# Altium schematic symbol library 野火_F103霸道_原理图封装_V2_0.SCHLIB: 141 symbols (part 1 of 2)
Pins are listed as number, name and electrical type; pins without a type are passive.

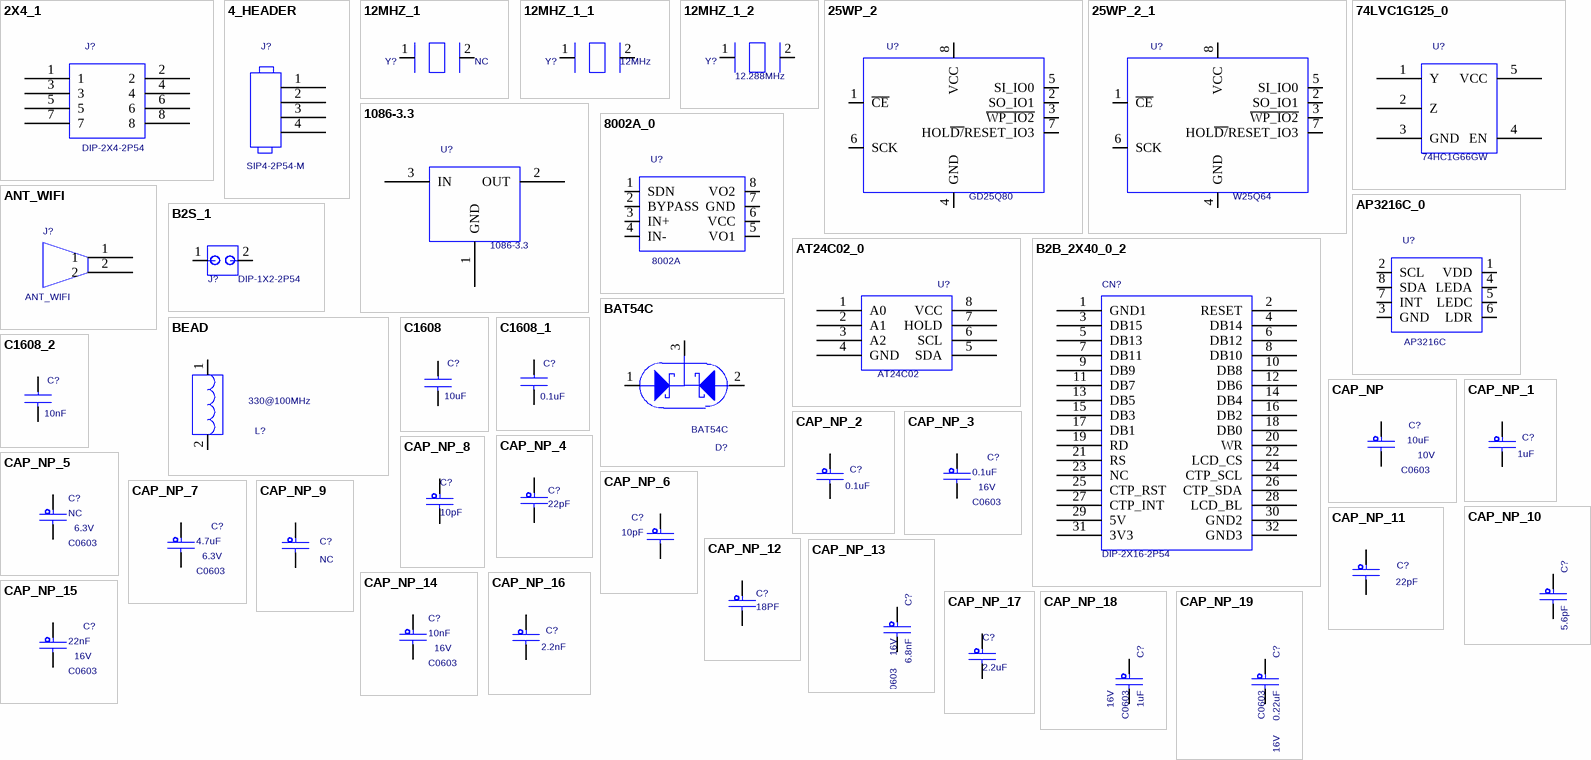
[diagram p0: symbols 2X4_1 to CAP_NP_19]

## 2X4_1
designator J?  value DIP-2X4-2P54  (hidden comment: 2X4_1)
Source_Path: D:\NXP_RT1050\RT1050_MB_PRO\SCH\IMXRT1052_MB_PRO_0321.DSN; PCB DECAL: DIP-2X4-2P54
footprint DIP-2X4-2P54
pins: 1, 2, 3, 4, 5, 6, 7, 8

## 4_HEADER
designator J?  value SIP4-2P54-M  (hidden comment: 4_HEADER)
PCB DECAL: SIP4-2P54; Source_Path: C:\MYPROGRAM\CADENCE\SPB_16.6\TOOLS\CAPTURE\LIBRARY\CONNECTOR.OLB
footprint SIP4-2P54
pins: 1, 2, 3, 4

## 12MHZ_1
designator Y?  value NC  (hidden comment: 12MHZ_1)
PCB DECAL: XTAL-DIP; Source_Path: H:\NXP_RT1050\SCH\IMXRT1052_MB.DSN
footprint XTAL-DIP
pins: 1, 2

## 12MHZ_1_1
designator Y?, comment value 12MHz  (hidden comment: 12MHZ_1)
PCB DECAL: XTAL_SMD; Source_Path: H:\NXP_RT1050\SCH\IMXRT1052_MB.DSN
footprint XTAL_SMD
pins: 1, 2

## 12MHZ_1_2
designator Y?, comment value 12.288MHz  (hidden comment: 12MHZ_1)
PCB DECAL: XTAL_SMD; Source_Path: H:\NXP_RT1050\SCH\IMXRT1052_MB.DSN
footprint XTAL_SMD
pins: 1, 2

## 25WP_2
designator U?  value GD25Q80  (hidden comment: 25WP_2)
IC MEM FLASH QPI 64Mb 1.65-1.95V SOIC8W; AGILE_PN: 334-77734; MFG_NAME01: ISSI; MFG_PN01: IS25WP064A-JBLE; Temp_Range: -40C to +105C; CAD_APPROVED: Yes; PCB DECAL: SOIC8-208; Source_Path: H:\NXP_RT1050\SCH\SCHLIB\IMXRT1052_1205.DSN; ROHS: Yes; HEIGHT: 2.16MM; CLASS: IC
footprint SOIC8-208
pins: 1 ~{CE}, 2 SO_IO1, 3 ~{WP_IO2}, 4 GND (power), 5 SI_IO0, 6 SCK, 7 HOL~{D/}RESET_IO3, 8 VCC (power)

## 25WP_2_1
designator U?, comment value W25Q64  (hidden comment: 25WP_2)
IC MEM FLASH QPI 64Mb 1.65-1.95V SOIC8W; PCB DECAL: SOIC8-208; AGILE_PN: 334-77734; MFG_NAME01: ISSI; MFG_PN01: IS25WP064A-JBLE; Temp_Range: -40C to +105C; CAD_APPROVED: Yes; Source_Path: H:\NXP_RT1050\SCH\SCHLIB\IMXRT1052_1205.DSN; ROHS: Yes; HEIGHT: 2.16MM; CLASS: IC
footprint SOIC8-208
pins: 1 ~{CE}, 2 SO_IO1, 3 ~{WP_IO2}, 4 GND (power), 5 SI_IO0, 6 SCK, 7 HOL~{D/}RESET_IO3, 8 VCC (power)

## 74LVC1G125_0
designator U?  value 74HC1G66GW  (hidden comment: 74LVC1G125_0)
PCB DECAL: SOT-353; Source_Path: F:\STM32\F407\F407 PRO\SCH\STM32F407_PRO.DSN
footprint SOT-353
pins: 1 Y, 2 Z, 3 GND, 4 EN, 5 VCC

## 1086-3.3
designator U?
PCB DECAL: TO252-2; Source_Path: H:\NXP_RT1050\SCH\SCHLIB\YHSCHLIB.OLB; Value: 1086-3.3
footprint TO252-2
pins: 1 GND, 2 OUT, 3 IN

## 8002A_0
designator U?  value 8002A  (hidden comment: 8002A_0)
PCB DECAL: SOP8; Source_Path: F:\STM32\F103\F103 PRO\野火_F103霸道_原理图_190226.DSN
footprint SOP8
pins: 1 SDN, 2 BYPASS, 3 IN+, 4 IN-, 5 VO1, 6 VCC, 7 GND, 8 VO2

## ANT_WIFI
designator J?
PCB DECAL: ANT_DIP2; Source_Path: F:\STM32\F407\F407 PRO\SCH\F407.OLB; Value: ANT_WIFI
footprint ANT_DIP2
pins: 1, 2

## AP3216C_0
designator U?  value AP3216C  (hidden comment: AP3216C_0)
Source_Path: D:\NXP_RT1050\RT1050_MB_PRO\SCH\IMXRT1052_MB_PRO_0414.DSN; PCB DECAL: AP3216C
footprint AP3216C
pins: 1 VDD, 2 SCL, 3 GND, 4 LEDA, 5 LEDC, 6 LDR, 7 INT, 8 SDA

## AT24C02_0
designator U?  value AT24C02  (hidden comment: AT24C02_0)
PCB DECAL: SOP8; Source_Path: F:\STM32\F407\F407 PRO\SCH\野火_F407霸天虎_原理图_V2.0.DSN; OriginalSymbolOrigin: (-20000,30000)
footprint SOP8
pins: 1 A0, 2 A1, 3 A2, 4 GND, 5 SDA, 6 SCL, 7 HOLD, 8 VCC

## B2B_2X40_0_2
designator CN?  value DIP-2X16-2P54  (hidden comment: B2B_2X40_0_2)
Source_Path: F:\STM32\F407\F407 PRO\SCH\STM32F407_PRO.DSN; PCB DECAL: DIP-2X16-2P54
footprint DIP-2X16-2P54
pins: 1 GND1, 2 RESET, 3 DB15, 4 DB14, 5 DB13, 6 DB12, 7 DB11, 8 DB10, 9 DB9, 10 DB8, 11 DB7, 12 DB6, 13 DB5, 14 DB4, 15 DB3, 16 DB2, 17 DB1, 18 DB0, 19 RD, 20 WR, 21 RS, 22 LCD_CS, 23 NC, 24 CTP_SCL, 25 CTP_RST, 26 CTP_SDA, 27 CTP_INT, 28 LCD_BL, 29 5V, 30 GND2, 31 3V3, 32 GND3

## B2S_1
designator J?  value DIP-1X2-2P54  (hidden comment: B2S_1)
PCB DECAL: HDR102; Source_Path: F:\STM32\F429\SCH\V4\STM32F429_F767_H743_MB_1129.DSN
footprint HDR102
pins: 1, 2

## BAT54C
designator D?
PCB DECAL: SOT23; Source_Path: C:\MYPROGRAM\CADENCE\SPB_16.6\TOOLS\CAPTURE\LIBRARY\SCH.OLB; Value: BAT54C
footprint SOT23
pins: 1 ANODE, 2 NC, 3 CATHODE

## BEAD
designator L?  value 330@100MHz  (hidden comment: BEAD)
IND FER BEAD 330OHM@100MHZ 1.7A 0603; PART_TYPE: FERRITE\BEAD; TOL: 25%; CAD_APPROVED: Yes; MFG_PN01: MPZ1608S331A; MFG_NAME01: TDK; AGILE_PN: 180-78156; PCB DECAL: L0603; Source_Path: Q:\ORCADCIS\SYMBOLS\FCL_INDUCTOR.OLB; CLASS: DISCRETE; HEIGHT: 0.95MM; ROHS: Yes; Tolerance: 25%
footprint L0603
pins: 1, 2

## C1608
designator C?  value 10uF  (hidden comment: C1608)
PCB DECAL: C0603; Source_Path: D:\SOPGODS_VIEW_AP\MOBILE_AP_APPLICATION\LIBRARY\ORCAD\DEVICE.OLB
footprint C0603
pins: 1, 2

## C1608_1
designator C?, comment value 0.1uF  (hidden comment: C1608)
PCB DECAL: C0603; Source_Path: D:\SOPGODS_VIEW_AP\MOBILE_AP_APPLICATION\LIBRARY\ORCAD\DEVICE.OLB
footprint C0603
pins: 1, 2

## C1608_2
designator C?, comment value 10nF  (hidden comment: C1608)
PCB DECAL: C0603; Source_Path: D:\SOPGODS_VIEW_AP\MOBILE_AP_APPLICATION\LIBRARY\ORCAD\DEVICE.OLB
footprint C0603
pins: 1, 2

## CAP_NP
designator C?  value 10uF  PCB DECAL: C0603  voltage_rating: 10V  (hidden comment: CAP_NP)
CAP CER 22UF 6.3V 20% X5R 0603; FPLIST: CC0603_OV,CC0603,0603_CC; CAD_APPROVED: Yes; MFG_PN01: CL10A226MQ8NRNE; MFG_NAME01: Samsung; AGILE_PN: 150-78467; Source_Path: Q:\ORCADCIS\SYMBOLS\FCL_CAPACITOR.OLB; CLASS: DISCRETE; VOLTAGE: 6.3V; HEIGHT: 1MM; ROHS: Yes; Tolerance: 20%
footprint C0603
pins: 1, 2

## CAP_NP_1
designator C?, comment value 1uF  (hidden comment: CAP_NP)
CAP CER 0.1UF 10V 10% X5R 0402; FPLIST: CC0402_25,CC0402_HD,0402_CC; CAD_APPROVED: Yes; MFG_PN01: C0402C104K8PAC; MFG_NAME01: KEMET; AGILE_PN: 150-75634; PCB DECAL: C0603; Source_Path: Q:\ORCADCIS\SYMBOLS\FCL_CAPACITOR.OLB; CLASS: DISCRETE; VOLTAGE: 10V; HEIGHT: 0.64MM; ROHS: Yes; Tolerance: 10%
footprint C0603
pins: 1, 2

## CAP_NP_2
designator C?, comment value 0.1uF  (hidden comment: CAP_NP)
CAP CER 0.1UF 10V 10% X5R 0402; FPLIST: CC0402_25,CC0402_HD,0402_CC; CAD_APPROVED: Yes; MFG_PN01: C0402C104K8PAC; MFG_NAME01: KEMET; AGILE_PN: 150-75634; PCB DECAL: C0603; Source_Path: Q:\ORCADCIS\SYMBOLS\FCL_CAPACITOR.OLB; CLASS: DISCRETE; VOLTAGE: 10V; HEIGHT: 0.64MM; ROHS: Yes; Tolerance: 10%
footprint C0603
pins: 1, 2

## CAP_NP_3
designator C?, comment value 0.1uF  PCB DECAL: C0603  voltage_rating: 16V  (hidden comment: CAP_NP)
CAP CER 22UF 6.3V 20% X5R 0603; AGILE_PN: 150-78467; MFG_NAME01: Samsung; MFG_PN01: CL10A226MQ8NRNE; CAD_APPROVED: Yes; FPLIST: CC0603_OV,CC0603,0603_CC; Source_Path: Q:\ORCADCIS\SYMBOLS\FCL_CAPACITOR.OLB; CLASS: DISCRETE; Tolerance: 20%; ROHS: Yes; HEIGHT: 1MM; VOLTAGE: 6.3V
footprint C0603
pins: 1, 2

## CAP_NP_4
designator C?, comment value 22pF  (hidden comment: CAP_NP)
CAP CER 4.7PF 50V 0.25PF C0G 0402; PCB DECAL: C0603; FPLIST: CC0402_25,CC0402_HD,0402_CC; CAD_APPROVED: Yes; MFG_PN01: GRM1555C1H4R7CA01D; MFG_NAME01: MURATA; AGILE_PN: 150-76335; Source_Path: Q:\ORCADCIS\SYMBOLS\FCL_CAPACITOR.OLB; CLASS: DISCRETE; VOLTAGE: 50V; HEIGHT: 0.55MM; ROHS: Yes; Tolerance: 0.25pF
footprint C0603
pins: 1, 2

## CAP_NP_5
designator C?, comment value NC  PCB DECAL: C0603  voltage_rating: 6.3V  (hidden comment: CAP_NP)
CAP CER 22UF 6.3V 20% X5R 0603; FPLIST: CC0603_OV,CC0603,0603_CC; CAD_APPROVED: Yes; MFG_PN01: CL10A226MQ8NRNE; MFG_NAME01: Samsung; AGILE_PN: 150-78467; Source_Path: Q:\ORCADCIS\SYMBOLS\FCL_CAPACITOR.OLB; CLASS: DISCRETE; VOLTAGE: 6.3V; HEIGHT: 1MM; ROHS: Yes; Tolerance: 20%
footprint C0603
pins: 1, 2

## CAP_NP_6
designator C?, comment value 10pF  (hidden comment: CAP_NP)
CAP CER 18PF 50V 1% C0G 0402; PCB DECAL: C0603; ROOM: ATLAS-AP; PRIORITY_PN: 021-00248; CAD_APPROVED: Yes; MFG_PN01: CC0402FRNPO9BN180; MFG_NAME01: YAGEO; AGILE_PN: 150-76630; FPLIST: CC0402_25,CC0402_HD,0402_CC; Source_Path: Q:\ORCADCIS\SYMBOLS\FCL_CAPACITOR.OLB; CLASS: DISCRETE; VOLTAGE: 50V; HEIGHT: 0.59MM; ROHS: Yes; Tolerance: 1%
footprint C0603
pins: 1, 2

## CAP_NP_7
designator C?, comment value 4.7uF  PCB DECAL: C0603  voltage_rating: 6.3V  (hidden comment: CAP_NP)
CAP CER 22UF 6.3V 20% X5R 0603; FPLIST: CC0603_OV,CC0603,0603_CC; CAD_APPROVED: Yes; MFG_PN01: CL10A226MQ8NRNE; MFG_NAME01: Samsung; AGILE_PN: 150-78467; Source_Path: Q:\ORCADCIS\SYMBOLS\FCL_CAPACITOR.OLB; CLASS: DISCRETE; VOLTAGE: 6.3V; HEIGHT: 1MM; ROHS: Yes; Tolerance: 20%
footprint C0603
pins: 1, 2

## CAP_NP_8
designator C?, comment value 10pF  (hidden comment: CAP_NP)
CAP CER 0.1UF 10V 10% X5R 0402; PCB DECAL: C0603; FPLIST: CC0402_25,CC0402_HD,0402_CC; CAD_APPROVED: Yes; MFG_PN01: C0402C104K8PAC; MFG_NAME01: KEMET; AGILE_PN: 150-75634; Source_Path: Q:\ORCADCIS\SYMBOLS\FCL_CAPACITOR.OLB; CLASS: DISCRETE; VOLTAGE: 10V; HEIGHT: 0.64MM; ROHS: Yes; Tolerance: 10%
footprint C0603
pins: 1, 2

## CAP_NP_9
designator C?, comment value NC  (hidden comment: CAP_NP)
CAP CER 0.1UF 10V 10% X5R 0402; PCB DECAL: C0603; AGILE_PN: 150-75634; MFG_NAME01: KEMET; MFG_PN01: C0402C104K8PAC; CAD_APPROVED: Yes; FPLIST: CC0402_25,CC0402_HD,0402_CC; Source_Path: Q:\ORCADCIS\SYMBOLS\FCL_CAPACITOR.OLB; CLASS: DISCRETE; Tolerance: 10%; ROHS: Yes; HEIGHT: 0.64MM; VOLTAGE: 10V
footprint C0603
pins: 1, 2

## CAP_NP_10
designator C?, comment value 5.6pF  (hidden comment: CAP_NP)
CAP CER 0.1UF 10V 10% X5R 0402; AGILE_PN: 150-75634; MFG_NAME01: KEMET; MFG_PN01: C0402C104K8PAC; CAD_APPROVED: Yes; FPLIST: CC0402_25,CC0402_HD,0402_CC; PCB DECAL: C0603; Source_Path: Q:\ORCADCIS\SYMBOLS\FCL_CAPACITOR.OLB; CLASS: DISCRETE; Tolerance: 10%; ROHS: Yes; HEIGHT: 0.64MM; VOLTAGE: 10V
footprint C0603
pins: 1, 2

## CAP_NP_11
designator C?, comment value 22pF  (hidden comment: CAP_NP)
CAP CER 0.1UF 10V 10% X5R 0402; AGILE_PN: 150-75634; MFG_NAME01: KEMET; MFG_PN01: C0402C104K8PAC; CAD_APPROVED: Yes; FPLIST: CC0402_25,CC0402_HD,0402_CC; PCB DECAL: C0603; Source_Path: Q:\ORCADCIS\SYMBOLS\FCL_CAPACITOR.OLB; CLASS: DISCRETE; Tolerance: 10%; ROHS: Yes; HEIGHT: 0.64MM; VOLTAGE: 10V
footprint C0603
pins: 1, 2

## CAP_NP_12
designator C?, comment value 18PF  (hidden comment: CAP_NP)
CAP CER 4.7PF 50V 0.25PF C0G 0402; AGILE_PN: 150-76335; MFG_NAME01: MURATA; MFG_PN01: GRM1555C1H4R7CA01D; CAD_APPROVED: Yes; FPLIST: CC0402_25,CC0402_HD,0402_CC; PCB DECAL: C0603; Source_Path: Q:\ORCADCIS\SYMBOLS\FCL_CAPACITOR.OLB; CLASS: DISCRETE; Tolerance: 0.25pF; ROHS: Yes; HEIGHT: 0.55MM; VOLTAGE: 50V
footprint C0603
pins: 1, 2

## CAP_NP_13
designator C?, comment value 6.8nF  PCB DECAL: C0603  voltage_rating: 16V  (hidden comment: CAP_NP)
CAP CER 22UF 6.3V 20% X5R 0603; FPLIST: CC0603_OV,CC0603,0603_CC; CAD_APPROVED: Yes; MFG_PN01: CL10A226MQ8NRNE; MFG_NAME01: Samsung; AGILE_PN: 150-78467; Source_Path: Q:\ORCADCIS\SYMBOLS\FCL_CAPACITOR.OLB; CLASS: DISCRETE; VOLTAGE: 6.3V; HEIGHT: 1MM; ROHS: Yes; Tolerance: 20%
footprint C0603
pins: 1, 2

## CAP_NP_14
designator C?, comment value 10nF  voltage_rating: 16V  PCB DECAL: C0603  (hidden comment: CAP_NP)
CAP CER 22UF 6.3V 20% X5R 0603; AGILE_PN: 150-78467; MFG_NAME01: Samsung; MFG_PN01: CL10A226MQ8NRNE; CAD_APPROVED: Yes; FPLIST: CC0603_OV,CC0603,0603_CC; Source_Path: Q:\ORCADCIS\SYMBOLS\FCL_CAPACITOR.OLB; CLASS: DISCRETE; Tolerance: 20%; ROHS: Yes; HEIGHT: 1MM; VOLTAGE: 6.3V
footprint C0603
pins: 1, 2

## CAP_NP_15
designator C?, comment value 22nF  voltage_rating: 16V  PCB DECAL: C0603  (hidden comment: CAP_NP)
CAP CER 22UF 6.3V 20% X5R 0603; FPLIST: CC0603_OV,CC0603,0603_CC; CAD_APPROVED: Yes; MFG_PN01: CL10A226MQ8NRNE; MFG_NAME01: Samsung; AGILE_PN: 150-78467; Source_Path: Q:\ORCADCIS\SYMBOLS\FCL_CAPACITOR.OLB; CLASS: DISCRETE; VOLTAGE: 6.3V; HEIGHT: 1MM; ROHS: Yes; Tolerance: 20%
footprint C0603
pins: 1, 2

## CAP_NP_16
designator C?, comment value 2.2nF  (hidden comment: CAP_NP)
CAP CER 0.1UF 10V 10% X5R 0402; PCB DECAL: C0603; FPLIST: CC0402_25,CC0402_HD,0402_CC; CAD_APPROVED: Yes; MFG_PN01: C0402C104K8PAC; MFG_NAME01: KEMET; AGILE_PN: 150-75634; Source_Path: Q:\ORCADCIS\SYMBOLS\FCL_CAPACITOR.OLB; CLASS: DISCRETE; VOLTAGE: 10V; HEIGHT: 0.64MM; ROHS: Yes; Tolerance: 10%
footprint C0603
pins: 1, 2

## CAP_NP_17
designator C?, comment value 2.2uF  (hidden comment: CAP_NP)
CAP CER 0.1UF 10V 10% X5R 0402; FPLIST: CC0402_25,CC0402_HD,0402_CC; CAD_APPROVED: Yes; MFG_PN01: C0402C104K8PAC; MFG_NAME01: KEMET; AGILE_PN: 150-75634; PCB DECAL: C0603; Source_Path: Q:\ORCADCIS\SYMBOLS\FCL_CAPACITOR.OLB; CLASS: DISCRETE; VOLTAGE: 10V; HEIGHT: 0.64MM; ROHS: Yes; Tolerance: 10%
footprint C0603
pins: 1, 2

## CAP_NP_18
designator C?, comment value 1uF  voltage_rating: 16V  PCB DECAL: C0603  (hidden comment: CAP_NP)
CAP CER 22UF 6.3V 20% X5R 0603; AGILE_PN: 150-78467; MFG_NAME01: Samsung; MFG_PN01: CL10A226MQ8NRNE; CAD_APPROVED: Yes; FPLIST: CC0603_OV,CC0603,0603_CC; Source_Path: Q:\ORCADCIS\SYMBOLS\FCL_CAPACITOR.OLB; CLASS: DISCRETE; Tolerance: 20%; ROHS: Yes; HEIGHT: 1MM; VOLTAGE: 6.3V
footprint C0603
pins: 1, 2

## CAP_NP_19
designator C?, comment value 0.22uF  voltage_rating: 16V  PCB DECAL: C0603  (hidden comment: CAP_NP)
CAP CER 22UF 6.3V 20% X5R 0603; AGILE_PN: 150-78467; MFG_NAME01: Samsung; MFG_PN01: CL10A226MQ8NRNE; CAD_APPROVED: Yes; FPLIST: CC0603_OV,CC0603,0603_CC; Source_Path: Q:\ORCADCIS\SYMBOLS\FCL_CAPACITOR.OLB; CLASS: DISCRETE; Tolerance: 20%; ROHS: Yes; HEIGHT: 1MM; VOLTAGE: 6.3V
footprint C0603
pins: 1, 2

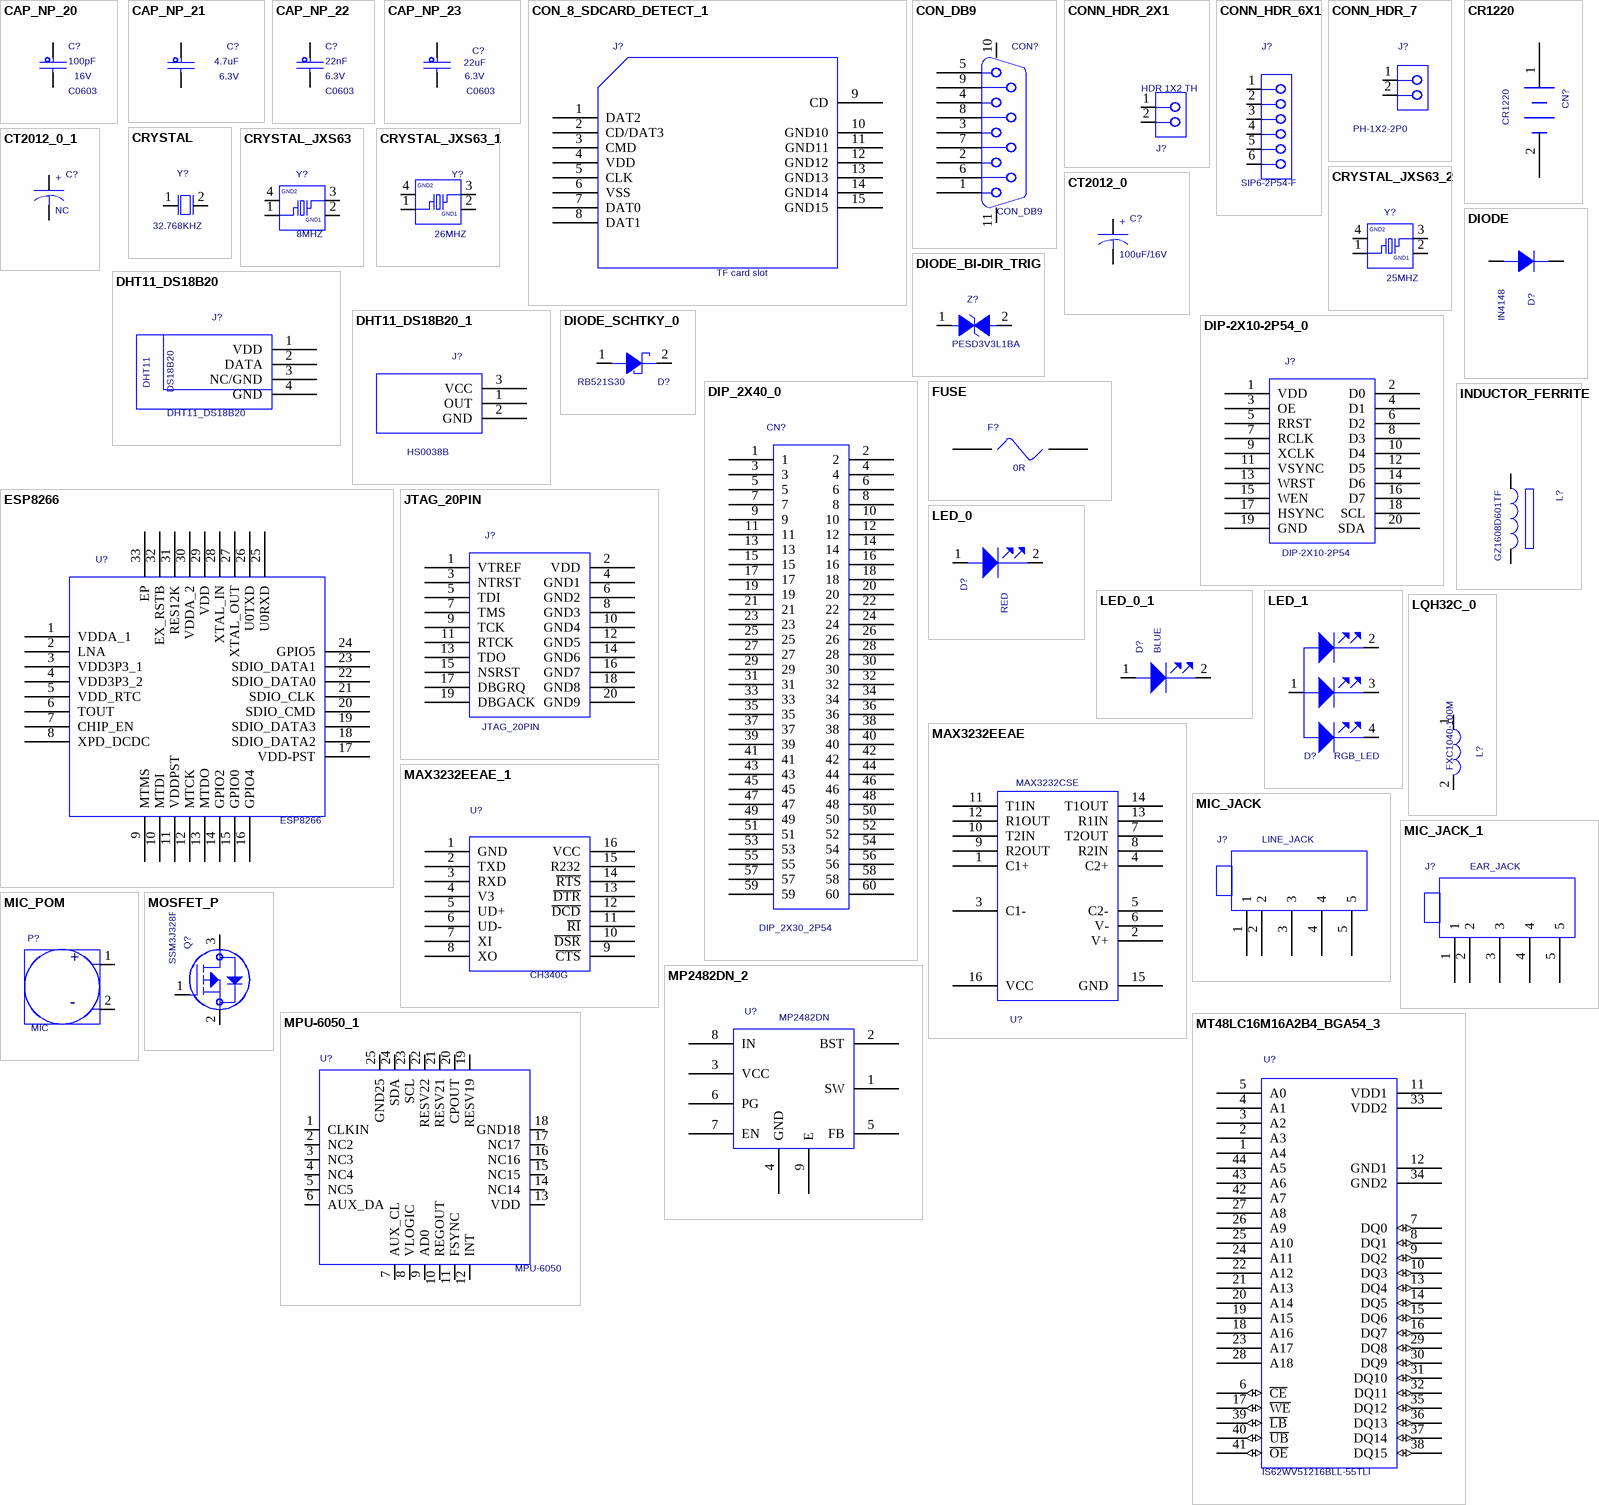
[diagram p1: symbols CAP_NP_20 to MT48LC16M16A2B4_BGA54_3]

## CAP_NP_20
designator C?, comment value 100pF  PCB DECAL: C0603  voltage_rating: 16V  (hidden comment: CAP_NP)
CAP CER 22UF 6.3V 20% X5R 0603; FPLIST: CC0603_OV,CC0603,0603_CC; CAD_APPROVED: Yes; MFG_PN01: CL10A226MQ8NRNE; MFG_NAME01: Samsung; AGILE_PN: 150-78467; Source_Path: Q:\ORCADCIS\SYMBOLS\FCL_CAPACITOR.OLB; CLASS: DISCRETE; VOLTAGE: 6.3V; HEIGHT: 1MM; ROHS: Yes; Tolerance: 20%
footprint C0603
pins: 1, 2

## CAP_NP_21
designator C?, comment value 4.7uF  voltage_rating: 6.3V  (hidden comment: CAP_NP)
CAP CER 4.7UF 6.3V 20% X5R 0402; PCB DECAL: C0603; FPLIST: CC0402_25,CC0402_HD,0402_CC; CAD_APPROVED: Yes; MFG_PN01: C1005X5R0J475M050BC; MFG_NAME01: TDK; AGILE_PN: 150-78463; Source_Path: Q:\ORCADCIS\SYMBOLS\FCL_CAPACITOR.OLB; CLASS: DISCRETE; HEIGHT: 0.65MM; ROHS: Yes; Tolerance: 20%; VOLTAGE: 6.3V
footprint C0603
pins: 1, 2

## CAP_NP_22
designator C?, comment value 22nF  PCB DECAL: C0603  VOLTAGE: 6.3V  (hidden comment: CAP_NP)
CAP CER 0.22UF 6.3V 20% X5R 0402; FPLIST: CC0402_25,CC0402_HD,0402_CC; CAD_APPROVED: Yes; MFG_PN01: C0402C224M9PAC; MFG_NAME01: KEMET; AGILE_PN: 150-76271; Source_Path: Q:\ORCADCIS\SYMBOLS\FCL_CAPACITOR.OLB; CLASS: DISCRETE; HEIGHT: 0.55MM; ROHS: Yes; Tolerance: 20%
footprint C0603
pins: 1, 2

## CAP_NP_23
designator C?, comment value 22uF  PCB DECAL: C0603  voltage_rating: 6.3V  (hidden comment: CAP_NP)
CAP CER 22UF 6.3V 20% X5R 0603; FPLIST: CC0603_OV,CC0603,0603_CC; CAD_APPROVED: Yes; MFG_PN01: CL10A226MQ8NRNE; MFG_NAME01: Samsung; AGILE_PN: 150-78467; Source_Path: Q:\ORCADCIS\SYMBOLS\FCL_CAPACITOR.OLB; CLASS: DISCRETE; VOLTAGE: 6.3V; HEIGHT: 1MM; ROHS: Yes; Tolerance: 20%
footprint C0603
pins: 1, 2

## CON_8_SDCARD_DETECT_1
designator J?  value TF card slot  (hidden comment: CON_8_SDCARD_DETECT_1)
CON 8 SKT SD/MMC PUSH-PUSH RA SMT 1.1MM SP 83H AU; PCB DECAL: TFCARD; CAD_APPROVED: Yes; MFG_PN01: 95060030-14RRF; MFG_NAME01: ANYTRONIC CORPORATION LIMITED; AGILE_PN: 211-80105; Source_Path: H:\NXP_RT1050\SCH\IMXRT1052_MB.DSN; CLASS: IO; HEIGHT: 2.1 MM; ROHS: Yes
footprint TFCARD
pins: 1 DAT2, 2 CD/DAT3, 3 CMD, 4 VDD (power), 5 CLK, 6 VSS (power), 7 DAT0, 8 DAT1, 9 CD, 10 GND10, 11 GND11, 12 GND12, 13 GND13, 14 GND14, 15 GND15

## CON_DB9
designator CON?
PCB DECAL: DB9-M; Source_Path: E:\WORK\LIB\ORCAD_SCH\MYLIB_10120926.OLB; Value: CON_DB9
footprint DB9-M
pins: 1, 2, 3, 4, 5, 6, 7, 8, 9, 10, 11

## CONN_HDR_2X1
designator J?  value HDR 1X2 TH  (hidden comment: CONN_HDR_2X1)
HDR 1X2 TH 100MIL SP 339H AU 98L; CAD_APPROVED: YES; MFG_PN01: TSW-102-07-G-S; MFG_NAME01: SAMTEC; AGILE_PN: 210-75439; PCB DECAL: CON_2PIN; Source_Path: Q:\ORCADCIS\SYMBOLS\FCL_CONNECTOR.OLB; CLASS: IO; HEIGHT: 8.71 MM; ROHS: Yes
footprint CON_2PIN
pins: 1, 2

## CONN_HDR_6X1
designator J?  value SIP6-2P54-F  (hidden comment: CONN_HDR_6X1)
CON 1X6 SKT TH 100MIL SP 344H AU 118L; PCB DECAL: SIP6-2P54; AGILE_PN: 210-81616; MFG_NAME01: ANYTRONIC CORPORATION LIMITED; MFG_PN01: 08001S3 0611-29RF; Temp_Range: -40°C to +105°C; ASSY_OPT: DNP; CAD_APPROVED: Yes; Source_Path: Q:\ORCADCIS\SYMBOLS\FCL_CONNECTOR.OLB; CLASS: IO; ROHS: Yes; HEIGHT: 8.75MM
footprint SIP6-2P54
pins: 1, 2, 3, 4, 5, 6

## CONN_HDR_7
designator J?  value PH-1X2-2P0  (hidden comment: CONN_HDR_7)
HDR 1X2 TH 100MIL SP 339H AU 98L; AGILE_PN: 210-75439; MFG_NAME01: SAMTEC; MFG_PN01: TSW-102-07-G-S; ASSY_OPT: DNP; CAD_APPROVED: YES; Source_Path: F:\STM32\LITEOS开发板\SCH\LITEOS_EVK_1013_1.DSN; CLASS: IO; ROHS: Yes; HEIGHT: 8.71 MM; PCB DECAL: PH-1X2-2P0
footprint PH-1X2-2P0
pins: 1, 2

## CR1220
designator CN?
Source_Path: H:\NXP_RT1050\SCH\SCHLIB\YHSCHLIB.OLB; PCB DECAL: CR1220; Value: CR1220
footprint CR1220
pins: 1 BAT, 2 GND

## CRYSTAL
designator Y?  value 32.768KHZ  (hidden comment: CRYSTAL)
XTAL 32.768KHZ 7PF 20PPM -- SMT; PCB DECAL: 3215; CAD_APPROVED: Yes; MFG_PN01: FC-135 32.7680KA-AG3; MFG_NAME01: EPSON ELECTRONICS; AGILE_PN: 230-78102; Source_Path: Q:\ORCADCIS\SYMBOLS\FCL_XTAL_OSC.OLB; CLASS: IC; HEIGHT: 0.9MM; ROHS: Yes
footprint 3215
pins: 1, 2

## CRYSTAL_JXS63
designator Y?  value 8MHZ  (hidden comment: CRYSTAL_JXS63)
XTAL 24MHZ -- 30PPM 3.2X2.5MM SMD; AGILE_PN: 230-77452; MFG_NAME01: TXC CORP; MFG_PN01: 7V24000002; CAD_APPROVED: Yes; PCB DECAL: 3225; Source_Path: Q:\ORCADCIS\SYMBOLS\FCL_XTAL_OSC.OLB; CLASS: IC; ROHS: Yes; HEIGHT: 0.9MM
footprint 3225
pins: 1, 2 GND1 (power), 3, 4 GND2 (power)

## CRYSTAL_JXS63_1
designator Y?, comment value 26MHZ  (hidden comment: CRYSTAL_JXS63)
XTAL 24MHZ -- 30PPM 3.2X2.5MM SMD; PCB DECAL: 3225; AGILE_PN: 230-77452; MFG_NAME01: TXC CORP; MFG_PN01: 7V24000002; CAD_APPROVED: Yes; Source_Path: Q:\ORCADCIS\SYMBOLS\FCL_XTAL_OSC.OLB; CLASS: IC; ROHS: Yes; HEIGHT: 0.9MM
footprint 3225
pins: 1, 2 GND1 (power), 3, 4 GND2 (power)

## CRYSTAL_JXS63_2
designator Y?, comment value 25MHZ  (hidden comment: CRYSTAL_JXS63)
XTAL 24MHZ -- 30PPM 3.2X2.5MM SMD; CAD_APPROVED: Yes; MFG_PN01: 7V24000002; MFG_NAME01: TXC CORP; AGILE_PN: 230-77452; PCB DECAL: 3225; Source_Path: Q:\ORCADCIS\SYMBOLS\FCL_XTAL_OSC.OLB; CLASS: IC; HEIGHT: 0.9MM; ROHS: Yes
footprint 3225
pins: 1, 2 GND1 (power), 3, 4 GND2 (power)

## CT2012_0
designator C?  value 100uF/16V  (hidden comment: CT2012_0)
PCB DECAL: EC6P3; Source_Path: D:\01_LSI_PROJECT\C100\00.SMDK俺惯\SCHEMATICS\C100\C100_CPU.OLB
footprint EC6P3
pins: 1, 2
text: +

## CT2012_0_1
designator C?, comment value NC  (hidden comment: CT2012_0)
PCB DECAL: CAP100; Source_Path: D:\01_LSI_PROJECT\C100\00.SMDK俺惯\SCHEMATICS\C100\C100_CPU.OLB
footprint CAP100
pins: 1, 2
text: +

## DHT11_DS18B20
designator J?
PCB DECAL: SIP4-2P54; Source_Path: H:\NXP_RT1050\SCH\SCHLIB\YHSCHLIB.OLB; Value: DHT11_DS18B20
footprint SIP4-2P54
pins: 1 VDD, 2 DATA, 3 NC/GND, 4 GND
text: DHT11; DS18B20

## DHT11_DS18B20_1
designator J?  value HS0038B  (hidden comment: DHT11_DS18B20_1)
PCB DECAL: SIP3-2P54; Source_Path: D:\NXP_RT1050\RT1050_MB_PRO\SCH\IMXRT1052_MB_PRO_0413.DSN
footprint SIP3-2P54
pins: 1 OUT, 2 GND, 3 VCC

## DIODE
designator D?  value IN4148  (hidden comment: DIODE)
PCB DECAL: D1206; Source_Path: C:\CADENCE\SPB_16.2\TOOLS\CAPTURE\LIBRARY\DISCRETE.OLB
footprint D1206
pins: 1 A, 2 K

## DIODE_BI-DIR_TRIG
designator Z?  value PESD3V3L1BA  (hidden comment: DIODE_BI-DIR_TRIG)
Assembly: NC; ROOM: B-VGA_IN; PCB DECAL: SOD323; Source_Path: D:\PCB_DATA\ORCAD_LIB\LRY2.OLB; Package: D0603
footprint SOD323
pins: 1, 2

## DIODE_SCHTKY_0
designator D?  value RB521S30  (hidden comment: DIODE_SCHTKY_0)
DIODE SCH RECT 200MA 30V AEC-Q101 SOD-523; PCB DECAL: SOD523; AGILE_PN: 480-79672; MFG_NAME01: NEXPERIA; MFG_PN01: RB521S30,115; CAD_APPROVED: Yes; Source_Path: H:\NXP_RT1050\SCH\IMXRT1052_CORE\CORE\IMXRT1052_1207.DSN; CLASS: IC; ROHS: Yes; HEIGHT: 0.65MM
footprint SOD523
pins: 1, 2

## DIP-2X10-2P54_0
designator J?  value DIP-2X10-2P54  (hidden comment: DIP-2X10-2P54_0)
Source_Path: F:\STM32\F103\F103 PRO\野火_F103霸道_原理图_V2.0.DSN; PCB DECAL: DIP-2X10-2P54
footprint DIP-2X10-2P54
pins: 1 VDD, 2 D0, 3 OE, 4 D1, 5 RRST, 6 D2, 7 RCLK, 8 D3, 9 XCLK, 10 D4, 11 VSYNC, 12 D5, 13 WRST, 14 D6, 15 WEN, 16 D7, 17 HSYNC, 18 SCL, 19 GND, 20 SDA

## DIP_2X40_0
designator CN?  value DIP_2X30_2P54  (hidden comment: DIP_2X40_0)
PCB DECAL: DIP-2X302P54; Source_Path: F:\STM32\F407\F407 PRO\SCH\STM32F407_PRO_20181222.DSN
footprint DIP-2X302P54
pins: 1, 2, 3, 4, 5, 6, 7, 8, 9, 10, 11, 12, 13, 14, 15, 16, 17, 18, 19, 20, 21, 22, 23, 24, 25, 26, 27, 28, 29, 30, 31, 32, 33, 34, 35, 36, 37, 38, 39, 40, 41, 42, 43, 44, 45, 46, 47, 48, 49, 50, 51, 52, 53, 54, 55, 56, 57, 58, 59, 60

## ESP8266
designator U?
PCB DECAL: QFN32-050-3R7X3R7; Source_Path: F:\STM32\F407\F407 PRO\SCH\F407.OLB; Value: ESP8266
footprint QFN32-050-3R7X3R7
pins: 1 VDDA_1, 2 LNA, 3 VDD3P3_1, 4 VDD3P3_2, 5 VDD_RTC, 6 TOUT, 7 CHIP_EN, 8 XPD_DCDC, 9 MTMS, 10 MTDI, 11 VDDPST, 12 MTCK, 13 MTDO, 14 GPIO2, 15 GPIO0, 16 GPIO4, 17 VDD-PST, 18 SDIO_DATA2, 19 SDIO_DATA3, 20 SDIO_CMD, 21 SDIO_CLK, 22 SDIO_DATA0, 23 SDIO_DATA1, 24 GPIO5, 25 U0RXD, 26 U0TXD, 27 XTAL_OUT, 28 XTAL_IN, 29 VDD, 30 VDDA_2, 31 RES12K, 32 EX_RSTB, 33 EP

## FUSE
designator F?  value 0R  (hidden comment: FUSE)
PCB DECAL: F0805; Source_Path: E:\WORK\LIB\ORCAD_SCH\MYLIB_10120926.OLB
footprint F0805
pins: 1, 2

## INDUCTOR_FERRITE
designator L?  value GZ1608D601TF  (hidden comment: INDUCTOR_FERRITE)
IND FER BEAD 120 OHM@100MHZ 0.5A 25% 0402; PART_TYPE: FERRITE\BEAD; AGILE_PN: 180-77771; MFG_NAME01: Murata; MFG_PN01: BLM15AG121SN1D; CAD_APPROVED: Yes; FPLIST: IND_0402,0402_CC; PCB DECAL: L0603; Source_Path: Q:\ORCADCIS\SYMBOLS\FCL_INDUCTOR.OLB; CLASS: DISCRETE; Tolerance: 25%; ROHS: Yes; HEIGHT: 0.55MM
footprint L0603
pins: 1, 2

## JTAG_20PIN
designator J?
Source_Path: C:\MYPROGRAM\CADENCE\SPB_16.6\TOOLS\CAPTURE\LIBRARY\SCH.OLB; PCB DECAL: JTAG_20PIN; Value: JTAG_20PIN
footprint JTAG_20PIN
pins: 1 VTREF, 2 VDD, 3 NTRST, 4 GND1, 5 TDI, 6 GND2, 7 TMS, 8 GND3, 9 TCK, 10 GND4, 11 RTCK, 12 GND5, 13 TDO, 14 GND6, 15 NSRST, 16 GND7, 17 DBGRQ, 18 GND8, 19 DBGACK, 20 GND9

## LED_0
designator D?  value RED  (hidden comment: LED_0)
LED GRN SGL 25MA 0603; PCB DECAL: LED0603; CAD_APPROVED: Yes; MFG_PN01: KPT-1608SGC; MFG_NAME01: KINGBRIGHT; AGILE_PN: 370-76549; Source_Path: H:\NXP_RT1050\SCH\IMXRT1052_CORE\CORE\IMXRT1052_1207.DSN; CLASS: IC; HEIGHT: 0.85MM; ROHS: Yes
footprint LED0603
pins: 1 ANODE, 2 CATHODE

## LED_0_1
designator D?, comment value BLUE  (hidden comment: LED_0)
LED GRN SGL 25MA 0603; AGILE_PN: 370-76549; MFG_NAME01: KINGBRIGHT; MFG_PN01: KPT-1608SGC; CAD_APPROVED: Yes; PCB DECAL: LED0603; Source_Path: H:\NXP_RT1050\SCH\IMXRT1052_CORE\CORE\IMXRT1052_1207.DSN; CLASS: IC; ROHS: Yes; HEIGHT: 0.85MM
footprint LED0603
pins: 1 ANODE, 2 CATHODE

## LED_1
designator D?  value RGB_LED  (hidden comment: LED_1)
LED GRN SGL 25MA 0603; CAD_APPROVED: Yes; MFG_PN01: KPT-1608SGC; MFG_NAME01: KINGBRIGHT; AGILE_PN: 370-76549; PCB DECAL: LED_RGB_5MM; Source_Path: F:\STM32\F429\PCB\V4\F429\F429_F767_H743MB\STM32F429_F767_H743_MB_1203.DSN; CLASS: IC; HEIGHT: 0.85MM; ROHS: Yes
footprint LED_RGB_5MM
pins: 1 ANODE, 2 R, 3 G, 4 B

## LQH32C_0
designator L?  value FXC1040-100M  (hidden comment: LQH32C_0)
PCB DECAL: L1040; Source_Path: D:\USER\ALLEGRO\2009\APR\SMDK_S5PC110_BASE\CAPTURE\S5PC110_SMDK_BASE_BD_SCHEMATIC_REV0.0.DSN
footprint L1040
pins: 1, 2

## MAX3232EEAE
designator U?  value MAX3232CSE  (hidden comment: MAX3232EEAE)
PCB DECAL: SOIC16; Source_Path: E:\WORKS\PCB_DESIGN\CADENCE\LIB\PACKAGE_LIB\PACKAGE.OLB
footprint SOIC16
pins: 1 C1+, 2 V+, 3 C1-, 4 C2+, 5 C2-, 6 V-, 7 T2OUT, 8 R2IN, 9 R2OUT, 10 T2IN, 11 T1IN, 12 R1OUT, 13 R1IN, 14 T1OUT, 15 GND (power), 16 VCC (power)

## MAX3232EEAE_1
designator U?  value CH340G  (hidden comment: MAX3232EEAE_1)
PCB DECAL: SOIC16; Source_Path: H:\NXP_RT1050\SCH\IMXRT1052_MB.DSN
footprint SOIC16
pins: 1 GND, 2 TXD, 3 RXD, 4 V3, 5 UD+, 6 UD-, 7 XI, 8 XO, 9 ~{CTS}, 10 ~{DSR}, 11 ~{RI}, 12 ~{DCD}, 13 ~{DTR}, 14 ~{RTS}, 15 R232, 16 VCC (power)

## MIC_JACK
designator J?  value LINE_JACK  (hidden comment: MIC_JACK)
PCB DECAL: EAR_JACK; Source_Path: H:\NXP_RT1050\SCH\SCHLIB\YHSCHLIB.OLB
footprint EAR_JACK
pins: 1, 2, 3, 4, 5

## MIC_JACK_1
designator J?, comment value EAR_JACK  (hidden comment: MIC_JACK)
Source_Path: H:\NXP_RT1050\SCH\SCHLIB\YHSCHLIB.OLB; PCB DECAL: EAR_JACK
footprint EAR_JACK
pins: 1, 2, 3, 4, 5

## MIC_POM
designator P?  value MIC  (hidden comment: MIC_POM)
AUDIO DEVICE MIC 0.5MA 2V 38-48+/-3dB 2.2KOHM 6MM TH; CAD_APPROVED: Yes; MFG_PN01: EM6022P; MFG_NAME01: Soberton Inc; AGILE_PN: 510-77987; PCB DECAL: MIC_6X2_2; Source_Path: Q:\ORCADCIS\SYMBOLS\FCL_MISC.OLB; CLASS: IC; HEIGHT: 2.4MM; ROHS: Yes
footprint MIC_6X2_2
pins: 1 OUT, 2 GND
text: +; -

## MOSFET_P
designator Q?  value SSM3J328R  (hidden comment: MOSFET_P)
TRAN PMOS PWR 12V 4.3A SOT23; AGILE_PN: 480-77718; MFG_NAME01: INTERNATIONAL RECTIFIER; MFG_PN01: IRLML6401TRPBF; CAD_APPROVED: Yes; Source_Path: Q:\ORCADCIS\SYMBOLS\FCL_SEMICONDUCTOR.OLB; CLASS: IC; PCB DECAL: SOT23; ROHS: Yes; HEIGHT: 1.12MM
footprint SOT23
pins: 1 GATE, 2 SOURCE, 3 DRAIN

## MP2482DN_2
designator U?  value MP2482DN  (hidden comment: MP2482DN_2)
PCB DECAL: SOIC8E; Source_Path: D:\NXP_RT1050\PCB\IMXRT1052-180207\SCH\RT1050_MB_PRO\IMXRT1052_MB_PRO_0320.DSN
footprint SOIC8E
pins: 1 SW, 2 BST, 3 VCC, 4 GND, 5 FB, 6 PG, 7 EN, 8 IN, 9 E (power)

## MPU-6050_1
designator U?  value MPU-6050  (hidden comment: MPU-6050_1)
PCB DECAL: QFN24; Source_Path: H:\NXP_RT1050\SCH\IMXRT1052_MB.DSN
footprint QFN24
pins: 1 CLKIN, 2 NC2, 3 NC3, 4 NC4, 5 NC5, 6 AUX_DA, 7 AUX_CL, 8 VLOGIC, 9 AD0, 10 REGOUT, 11 FSYNC, 12 INT, 13 VDD, 14 NC14, 15 NC15, 16 NC16, 17 NC17, 18 GND18, 19 RESV19, 20 CPOUT, 21 RESV21, 22 RESV22, 23 SCL, 24 SDA, 25 GND25

## MT48LC16M16A2B4_BGA54_3
designator U?  value IS62WV51216BLL-55TLI  (hidden comment: MT48LC16M16A2B4_BGA54_3)
IC MEM SDRAM 16MX16 6NS 3.3V VFBGA54; CAD_APPROVED: Yes; MFG_PN01: MT48LC16M16A2B4-6A IT:G; MFG_NAME01: MICRON; AGILE_PN: 334-77696; PCB DECAL: TSOP44-080-400; Source_Path: F:\STM32\F407\F407 PRO\SCH\STM32F407_PRO.DSN; HEIGHT: 1 MM; ROHS: Yes; CLASS: IC
footprint TSOP44-080-400
pins: 1 A4, 2 A3, 3 A2, 4 A1, 5 A0, 6 ~{CE} (io), 7 DQ0 (io), 8 DQ1 (io), 9 DQ2 (io), 10 DQ3 (io), 11 VDD1 (power), 12 GND1 (power), 13 DQ4 (io), 14 DQ5 (io), 15 DQ6 (io), 16 DQ7 (io), 17 ~{WE} (io), 18 A16, 19 A15, 20 A14, 21 A13, 22 A12, 23 A17, 24 A11, 25 A10, 26 A9, 27 A8, 28 A18, 29 DQ8 (io), 30 DQ9 (io), 31 DQ10 (io), 32 DQ11 (io), 33 VDD2 (power), 34 GND2 (power), 35 DQ12 (io), 36 DQ13 (io), 37 DQ14 (io), 38 DQ15 (io), 39 ~{LB} (io), 40 ~{UB} (io), 41 ~{OE} (io), 42 A7, 43 A6, 44 A5

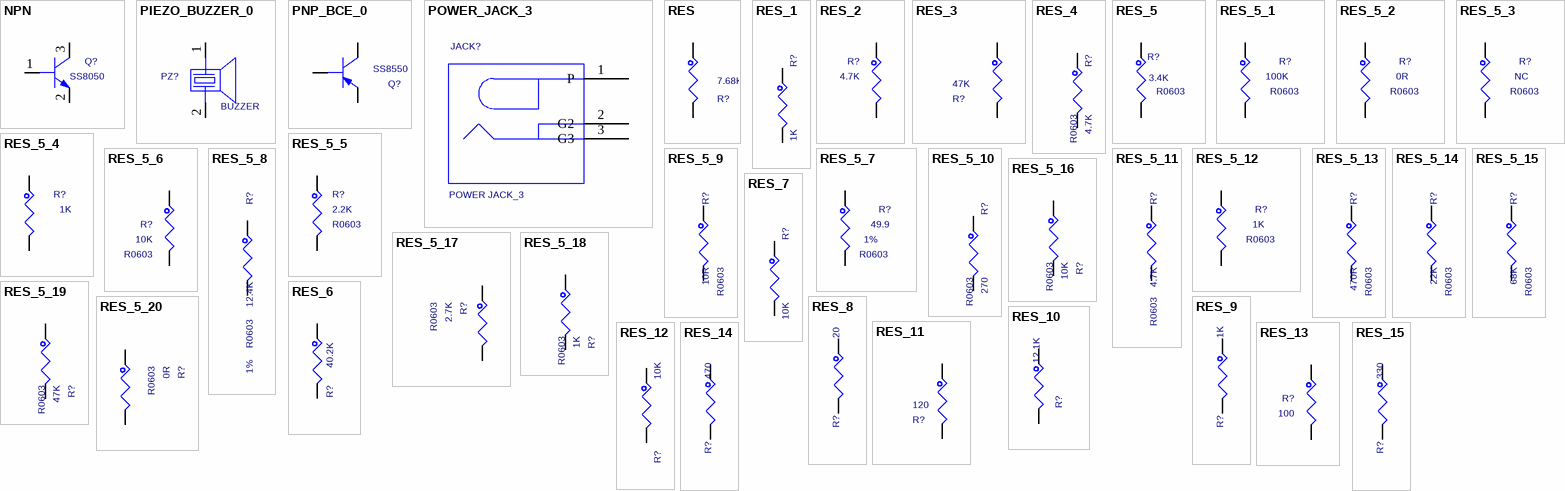
[diagram p2: symbols NPN to RES_15]

## NPN
designator Q?  value SS8050  (hidden comment: NPN)
TRAN NPN GEN 0.5A 45V AEC-Q101 SOT23; AGILE_PN: 480-78842; MFG_NAME01: NEXPERIA; MFG_PN01: BC817,215; CAD_APPROVED: Yes; Source_Path: Q:\ORCADCIS\SYMBOLS\FCL_SEMICONDUCTOR.OLB; CLASS: IC; ROHS: Yes; HEIGHT: 1.1 MM; PCB DECAL: SOT23
footprint SOT23
pins: 1 BASE, 2 EMITTER, 3 COLLECTOR

## PIEZO_BUZZER_0
designator PZ?  value BUZZER  (hidden comment: PIEZO_BUZZER_0)
Source_Path: D:\NXP_RT1050\RT1050_MB_PRO\SCH\IMXRT1052_MB_PRO_0417_4.DSN; PCB DECAL: BUZZER
footprint BUZZER
pins: 1 +, 2 -

## PNP_BCE_0
designator Q?  value SS8550  (hidden comment: PNP_BCE_0)
PCB DECAL: SOT23; Source_Path: F:\STM32\F407\F407 PRO\SCH\STM32F407_PRO.DSN
footprint SOT23
pins: 1 B, 2 E, 3 C

## POWER_JACK_3
designator JACK?  value POWER JACK_3  (hidden comment: POWER_JACK_3)
PCB DECAL: JACK-2_5MM_B; Source_Path: E:\WORK\SCH5\X\SCH\DEVELOP_BOARD_V1-5-21.DSN
footprint JACK-2_5MM_B
pins: 1 P, 2 G2, 3 G3

## RES
designator R?  value 7.68K  (hidden comment: RES)
RES MF 1.0M 1/10W 5% 0402; FPLIST: RC0402_25,RC0402_HD,0402_CC; CAD_APPROVED: Yes; MFG_PN01: ERJ-2GEJ105X; MFG_NAME01: PANASONIC; AGILE_PN: 470-79978; PCB DECAL: R0603; Source_Path: Q:\ORCADCIS\SYMBOLS\FCL_RESISTOR.OLB; CLASS: DISCRETE; ROHS: Yes; Tolerance: 5%; HEIGHT: 0.4MM
footprint R0603
pins: 1, 2

## RES_1
designator R?, comment value 1K  (hidden comment: RES)
RES MF ZERO OHM 1/16W 5% 0402; PCB DECAL: R0603; FPLIST: RC0402_25,RC0402_HD,RC0402_X2,0402_CC; CAD_APPROVED: Yes; MFG_PN01: MCR01MZPJ000; MFG_NAME01: ROHM; AGILE_PN: 470-75394; Source_Path: Q:\ORCADCIS\SYMBOLS\FCL_RESISTOR.OLB; CLASS: DISCRETE; ROHS: Yes; Tolerance: 5%; HEIGHT: 0.45 MM
footprint R0603
pins: 1, 2

## RES_2
designator R?, comment value 4.7K  (hidden comment: RES)
RES MF 1.0M 1/10W 5% 0402; FPLIST: RC0402_25,RC0402_HD,0402_CC; CAD_APPROVED: Yes; MFG_PN01: ERJ-2GEJ105X; MFG_NAME01: PANASONIC; AGILE_PN: 470-79978; PCB DECAL: R0603; Source_Path: Q:\ORCADCIS\SYMBOLS\FCL_RESISTOR.OLB; CLASS: DISCRETE; ROHS: Yes; Tolerance: 5%; HEIGHT: 0.4MM
footprint R0603
pins: 1, 2

## RES_3
designator R?, comment value 47K  (hidden comment: RES)
RES MF 1.0M 1/10W 5% 0402; PCB DECAL: R0603; AGILE_PN: 470-79978; MFG_NAME01: PANASONIC; MFG_PN01: ERJ-2GEJ105X; CAD_APPROVED: Yes; FPLIST: RC0402_25,RC0402_HD,0402_CC; Source_Path: Q:\ORCADCIS\SYMBOLS\FCL_RESISTOR.OLB; CLASS: DISCRETE; HEIGHT: 0.4MM; Tolerance: 5%; ROHS: Yes
footprint R0603
pins: 1, 2

## RES_4
designator R?  value 4.7K  PCB DECAL: R0603  (hidden comment: RES_4)
RES MF 4.7K 1/16W 5% 0402; AGILE_PN: 470-75626; MFG_NAME01: KOA SPEER; MFG_PN01: RK73B1ETTP472J; CAD_APPROVED: Yes; FPLIST: RC0402_25,RC0402_HD,0402_CC; CLASS: DISCRETE; Source_Path: F:\NXP\RT1020\SCH\IMXRT1021_0928.DSN; Tolerance: 5%; ROHS: Yes; HEIGHT: 0.41mm
footprint R0603
pins: 1, 2

## RES_5
designator R?  value 3.4K  PCB DECAL: R0603  (hidden comment: RES_5)
RES MF 4.7K 1/16W 5% 0402; AGILE_PN: 470-75626; MFG_NAME01: KOA SPEER; MFG_PN01: RK73B1ETTP472J; CAD_APPROVED: Yes; FPLIST: RC0402_25,RC0402_HD,0402_CC; Source_Path: F:\NXP\RT1020\SCH\IMXRT1021_0928_1.DSN; CLASS: DISCRETE; Tolerance: 5%; ROHS: Yes; HEIGHT: 0.41mm
footprint R0603
pins: 1, 2

## RES_5_1
designator R?, comment value 100K  PCB DECAL: R0603  (hidden comment: RES_5)
RES MF ZERO OHM 1/16W 5% 0402; AGILE_PN: 470-75394; MFG_NAME01: ROHM; MFG_PN01: MCR01MZPJ000; CAD_APPROVED: Yes; FPLIST: RC0402_25,RC0402_HD,RC0402_X2,0402_CC; Source_Path: F:\NXP\RT1020\SCH\IMXRT1021_0928_1.DSN; CLASS: DISCRETE; HEIGHT: 0.45 MM; Tolerance: 5%; ROHS: Yes
footprint R0603
pins: 1, 2

## RES_5_2
designator R?, comment value 0R  PCB DECAL: R0603  (hidden comment: RES_5)
RES MF ZERO OHM 1/16W 5% 0402; AGILE_PN: 470-75394; MFG_NAME01: ROHM; MFG_PN01: MCR01MZPJ000; CAD_APPROVED: Yes; FPLIST: RC0402_25,RC0402_HD,RC0402_X2,0402_CC; Source_Path: F:\NXP\RT1020\SCH\IMXRT1021_0928_1.DSN; CLASS: DISCRETE; HEIGHT: 0.45 MM; Tolerance: 5%; ROHS: Yes
footprint R0603
pins: 1, 2

## RES_5_3
designator R?, comment value NC  PCB DECAL: R0603  (hidden comment: RES_5)
RES MF ZERO OHM 1/16W 5% 0402; AGILE_PN: 470-75394; MFG_NAME01: ROHM; MFG_PN01: MCR01MZPJ000; CAD_APPROVED: Yes; FPLIST: RC0402_25,RC0402_HD,RC0402_X2,0402_CC; Source_Path: F:\NXP\RT1020\SCH\IMXRT1021_0928_1.DSN; CLASS: DISCRETE; HEIGHT: 0.45 MM; Tolerance: 5%; ROHS: Yes
footprint R0603
pins: 1, 2

## RES_5_4
designator R?, comment value 1K  (hidden comment: RES_5)
RES MF 220 OHM 1/10W 5% 0603; FPLIST: RC0603_OV,RC0603,0603_CC; CAD_APPROVED: Yes; MFG_PN01: RK73B1JTTD221J; MFG_NAME01: KOA SPEER; AGILE_PN: 470-30297; PCB DECAL: R0603; Source_Path: F:\NXP\RT1020\SCH\IMXRT1021_0928_1.DSN; CLASS: DISCRETE; HEIGHT: 0.6MM; ROHS: Yes; Tolerance: 5%
footprint R0603
pins: 1, 2

## RES_5_5
designator R?, comment value 2.2K  PCB DECAL: R0603  (hidden comment: RES_5)
RES MF 10K 1/16W 5% 0402; FPLIST: RC0402_25,RC0402_HD,0402_CC; CAD_APPROVED: Yes; MFG_PN01: CRCW040210K0JNED; MFG_NAME01: VISHAY INTERTECHNOLOGY; AGILE_PN: 470-75557; Source_Path: F:\NXP\RT1020\SCH\IMXRT1021_0928_1.DSN; CLASS: DISCRETE; ROHS: Yes; Tolerance: 5%; TOL: 5%; HEIGHT: 0.4 MM
footprint R0603
pins: 1, 2

## RES_5_6
designator R?, comment value 10K  PCB DECAL: R0603  (hidden comment: RES_5)
RES MF ZERO OHM 1/16W 5% 0402; AGILE_PN: 470-75394; MFG_NAME01: ROHM; MFG_PN01: MCR01MZPJ000; CAD_APPROVED: Yes; FPLIST: RC0402_25,RC0402_HD,RC0402_X2,0402_CC; Source_Path: F:\NXP\RT1020\SCH\IMXRT1021_0928_1.DSN; CLASS: DISCRETE; HEIGHT: 0.45 MM; Tolerance: 5%; ROHS: Yes
footprint R0603
pins: 1, 2

## RES_5_7
designator R?, comment value 49.9  Tolerance: 1%  PCB DECAL: R0603  (hidden comment: RES_5)
RES MF 180K 1/10W 1% AEC-Q200 0402; Temp_Range: -55C to +155C; FPLIST: RC0402_25,RC0402_HD,0402_CC; CAD_APPROVED: Yes; MFG_PN01: RK73H1ETTP1803F; MFG_NAME01: KOA SPEER; AGILE_PN: 470-31088; Source_Path: F:\NXP\RT1020\SCH\IMXRT1021_0928_1.DSN; CLASS: DISCRETE; HEIGHT: 0.40 MM; ROHS: Yes
footprint R0603
pins: 1, 2

## RES_5_8
designator R?, comment value 12.4K  Tolerance: 1%  PCB DECAL: R0603  (hidden comment: RES_5)
RES MF 200K 1/10W 1% AEC-Q200 0402; AGILE_PN: 470-31093; MFG_NAME01: KOA SPEER; MFG_PN01: RK73H1ETTP2003F; CAD_APPROVED: Yes; FPLIST: RC0402_25,RC0402_HD,0402_CC; Temp_Range: -55C to +155C; Source_Path: F:\NXP\RT1020\SCH\IMXRT1021_0928_1.DSN; CLASS: DISCRETE; HEIGHT: 0.40 MM; ROHS: Yes
footprint R0603
pins: 1, 2

## RES_5_9
designator R?, comment value 10R  PCB DECAL: R0603  (hidden comment: RES_5)
RES MF ZERO OHM 1/16W 5% 0402; AGILE_PN: 470-75394; MFG_NAME01: ROHM; MFG_PN01: MCR01MZPJ000; CAD_APPROVED: Yes; FPLIST: RC0402_25,RC0402_HD,RC0402_X2,0402_CC; Source_Path: F:\NXP\RT1020\SCH\IMXRT1021_0928_1.DSN; CLASS: DISCRETE; HEIGHT: 0.45 MM; Tolerance: 5%; ROHS: Yes
footprint R0603
pins: 1, 2

## RES_5_10
designator R?, comment value 270  PCB DECAL: R0603  (hidden comment: RES_5)
RES MF ZERO OHM 1/16W 5% 0402; AGILE_PN: 470-75394; MFG_NAME01: ROHM; MFG_PN01: MCR01MZPJ000; CAD_APPROVED: Yes; FPLIST: RC0402_25,RC0402_HD,RC0402_X2,0402_CC; Source_Path: F:\NXP\RT1020\SCH\IMXRT1021_0928_1.DSN; CLASS: DISCRETE; HEIGHT: 0.45 MM; Tolerance: 5%; ROHS: Yes
footprint R0603
pins: 1, 2

## RES_5_11
designator R?, comment value 4.7K  PCB DECAL: R0603  (hidden comment: RES_5)
RES MF ZERO OHM 1/16W 5% 0402; FPLIST: RC0402_25,RC0402_HD,RC0402_X2,0402_CC; CAD_APPROVED: Yes; MFG_PN01: MCR01MZPJ000; MFG_NAME01: ROHM; AGILE_PN: 470-75394; Source_Path: F:\NXP\RT1020\SCH\IMXRT1021_0928_1.DSN; CLASS: DISCRETE; ROHS: Yes; Tolerance: 5%; HEIGHT: 0.45 MM
footprint R0603
pins: 1, 2

## RES_5_12
designator R?, comment value 1K  PCB DECAL: R0603  (hidden comment: RES_5)
RES MF ZERO OHM 1/16W 5% 0402; FPLIST: RC0402_25,RC0402_HD,RC0402_X2,0402_CC; CAD_APPROVED: Yes; MFG_PN01: MCR01MZPJ000; MFG_NAME01: ROHM; AGILE_PN: 470-75394; Source_Path: F:\NXP\RT1020\SCH\IMXRT1021_0928_1.DSN; CLASS: DISCRETE; ROHS: Yes; Tolerance: 5%; HEIGHT: 0.45 MM
footprint R0603
pins: 1, 2

## RES_5_13
designator R?, comment value 470R  PCB DECAL: R0603  (hidden comment: RES_5)
RES MF ZERO OHM 1/16W 5% 0402; AGILE_PN: 470-75394; MFG_NAME01: ROHM; MFG_PN01: MCR01MZPJ000; CAD_APPROVED: Yes; FPLIST: RC0402_25,RC0402_HD,RC0402_X2,0402_CC; Source_Path: F:\NXP\RT1020\SCH\IMXRT1021_0928_1.DSN; CLASS: DISCRETE; HEIGHT: 0.45 MM; Tolerance: 5%; ROHS: Yes
footprint R0603
pins: 1, 2

## RES_5_14
designator R?, comment value 22K  PCB DECAL: R0603  (hidden comment: RES_5)
RES MF ZERO OHM 1/16W 5% 0402; AGILE_PN: 470-75394; MFG_NAME01: ROHM; MFG_PN01: MCR01MZPJ000; CAD_APPROVED: Yes; FPLIST: RC0402_25,RC0402_HD,RC0402_X2,0402_CC; Source_Path: F:\NXP\RT1020\SCH\IMXRT1021_0928_1.DSN; CLASS: DISCRETE; HEIGHT: 0.45 MM; Tolerance: 5%; ROHS: Yes
footprint R0603
pins: 1, 2

## RES_5_15
designator R?, comment value 68K  PCB DECAL: R0603  (hidden comment: RES_5)
RES MF ZERO OHM 1/16W 5% 0402; FPLIST: RC0402_25,RC0402_HD,RC0402_X2,0402_CC; CAD_APPROVED: Yes; MFG_PN01: MCR01MZPJ000; MFG_NAME01: ROHM; AGILE_PN: 470-75394; Source_Path: F:\NXP\RT1020\SCH\IMXRT1021_0928_1.DSN; CLASS: DISCRETE; ROHS: Yes; Tolerance: 5%; HEIGHT: 0.45 MM
footprint R0603
pins: 1, 2

## RES_5_16
designator R?, comment value 10K  PCB DECAL: R0603  (hidden comment: RES_5)
RES MF 10K 1/16W 5% 0402; FPLIST: RC0402_25,RC0402_HD,0402_CC; CAD_APPROVED: Yes; MFG_PN01: CRCW040210K0JNED; MFG_NAME01: VISHAY INTERTECHNOLOGY; AGILE_PN: 470-75557; Source_Path: F:\NXP\RT1020\SCH\IMXRT1021_0928_1.DSN; CLASS: DISCRETE; ROHS: Yes; Tolerance: 5%; TOL: 5%; HEIGHT: 0.4 MM
footprint R0603
pins: 1, 2

## RES_5_17
designator R?, comment value 2.7K  PCB DECAL: R0603  (hidden comment: RES_5)
RES MF 10K 1/16W 5% 0402; AGILE_PN: 470-75557; MFG_NAME01: VISHAY INTERTECHNOLOGY; MFG_PN01: CRCW040210K0JNED; CAD_APPROVED: Yes; FPLIST: RC0402_25,RC0402_HD,0402_CC; Source_Path: F:\NXP\RT1020\SCH\IMXRT1021_0928_1.DSN; CLASS: DISCRETE; HEIGHT: 0.4 MM; TOL: 5%; Tolerance: 5%; ROHS: Yes
footprint R0603
pins: 1, 2

## RES_5_18
designator R?, comment value 1K  PCB DECAL: R0603  (hidden comment: RES_5)
RES MF 10K 1/16W 5% 0402; FPLIST: RC0402_25,RC0402_HD,0402_CC; CAD_APPROVED: Yes; MFG_PN01: CRCW040210K0JNED; MFG_NAME01: VISHAY INTERTECHNOLOGY; AGILE_PN: 470-75557; Source_Path: F:\NXP\RT1020\SCH\IMXRT1021_0928_1.DSN; CLASS: DISCRETE; ROHS: Yes; Tolerance: 5%; TOL: 5%; HEIGHT: 0.4 MM
footprint R0603
pins: 1, 2

## RES_5_19
designator R?, comment value 47K  PCB DECAL: R0603  (hidden comment: RES_5)
RES MF 10K 1/16W 5% 0402; AGILE_PN: 470-75557; MFG_NAME01: VISHAY INTERTECHNOLOGY; MFG_PN01: CRCW040210K0JNED; CAD_APPROVED: Yes; FPLIST: RC0402_25,RC0402_HD,0402_CC; Source_Path: F:\NXP\RT1020\SCH\IMXRT1021_0928_1.DSN; CLASS: DISCRETE; HEIGHT: 0.4 MM; TOL: 5%; Tolerance: 5%; ROHS: Yes
footprint R0603
pins: 1, 2

## RES_5_20
designator R?, comment value 0R  PCB DECAL: R0603  (hidden comment: RES_5)
RES MF 10K 1/16W 5% 0402; FPLIST: RC0402_25,RC0402_HD,0402_CC; CAD_APPROVED: Yes; MFG_PN01: CRCW040210K0JNED; MFG_NAME01: VISHAY INTERTECHNOLOGY; AGILE_PN: 470-75557; Source_Path: F:\NXP\RT1020\SCH\IMXRT1021_0928_1.DSN; CLASS: DISCRETE; ROHS: Yes; Tolerance: 5%; TOL: 5%; HEIGHT: 0.4 MM
footprint R0603
pins: 1, 2

## RES_6
designator R?, comment value 40.2K  (hidden comment: RES)
RES MF 1.0M 1/10W 5% 0402; PCB DECAL: R0603; FPLIST: RC0402_25,RC0402_HD,0402_CC; CAD_APPROVED: Yes; MFG_PN01: ERJ-2GEJ105X; MFG_NAME01: PANASONIC; AGILE_PN: 470-79978; Source_Path: Q:\ORCADCIS\SYMBOLS\FCL_RESISTOR.OLB; CLASS: DISCRETE; ROHS: Yes; Tolerance: 5%; HEIGHT: 0.4MM
footprint R0603
pins: 1, 2

## RES_7
designator R?, comment value 10K  (hidden comment: RES)
RES MF ZERO OHM 1/16W 5% 0402; FPLIST: RC0402_25,RC0402_HD,RC0402_X2,0402_CC; CAD_APPROVED: Yes; MFG_PN01: MCR01MZPJ000; MFG_NAME01: ROHM; AGILE_PN: 470-75394; PCB DECAL: R0603; Source_Path: Q:\ORCADCIS\SYMBOLS\FCL_RESISTOR.OLB; CLASS: DISCRETE; ROHS: Yes; Tolerance: 5%; HEIGHT: 0.45 MM
footprint R0603
pins: 1, 2

## RES_8
designator R?, comment value 20  (hidden comment: RES)
RES MF 1.0M 1/10W 5% 0402; FPLIST: RC0402_25,RC0402_HD,0402_CC; CAD_APPROVED: Yes; MFG_PN01: ERJ-2GEJ105X; MFG_NAME01: PANASONIC; AGILE_PN: 470-79978; PCB DECAL: R0603; Source_Path: Q:\ORCADCIS\SYMBOLS\FCL_RESISTOR.OLB; CLASS: DISCRETE; ROHS: Yes; Tolerance: 5%; HEIGHT: 0.4MM
footprint R0603
pins: 1, 2

## RES_9
designator R?, comment value 1K  (hidden comment: RES)
RES MF 1.0M 1/10W 5% 0402; FPLIST: RC0402_25,RC0402_HD,0402_CC; CAD_APPROVED: Yes; MFG_PN01: ERJ-2GEJ105X; MFG_NAME01: PANASONIC; AGILE_PN: 470-79978; PCB DECAL: R0603; Source_Path: Q:\ORCADCIS\SYMBOLS\FCL_RESISTOR.OLB; CLASS: DISCRETE; ROHS: Yes; Tolerance: 5%; HEIGHT: 0.4MM
footprint R0603
pins: 1, 2

## RES_10
designator R?, comment value 12.1K  (hidden comment: RES)
RES MF 1.0M 1/10W 5% 0402; PCB DECAL: R0603; FPLIST: RC0402_25,RC0402_HD,0402_CC; CAD_APPROVED: Yes; MFG_PN01: ERJ-2GEJ105X; MFG_NAME01: PANASONIC; AGILE_PN: 470-79978; Source_Path: Q:\ORCADCIS\SYMBOLS\FCL_RESISTOR.OLB; CLASS: DISCRETE; ROHS: Yes; Tolerance: 5%; HEIGHT: 0.4MM
footprint R0603
pins: 1, 2

## RES_11
designator R?, comment value 120  (hidden comment: RES)
RES MF 1.0M 1/10W 5% 0402; AGILE_PN: 470-79978; MFG_NAME01: PANASONIC; MFG_PN01: ERJ-2GEJ105X; CAD_APPROVED: Yes; FPLIST: RC0402_25,RC0402_HD,0402_CC; PCB DECAL: R0603; Source_Path: Q:\ORCADCIS\SYMBOLS\FCL_RESISTOR.OLB; CLASS: DISCRETE; HEIGHT: 0.4MM; Tolerance: 5%; ROHS: Yes
footprint R0603
pins: 1, 2

## RES_12
designator R?, comment value 10K  (hidden comment: RES)
RES MF 1.0M 1/10W 5% 0402; PCB DECAL: R0603; AGILE_PN: 470-79978; MFG_NAME01: PANASONIC; MFG_PN01: ERJ-2GEJ105X; CAD_APPROVED: Yes; FPLIST: RC0402_25,RC0402_HD,0402_CC; Source_Path: Q:\ORCADCIS\SYMBOLS\FCL_RESISTOR.OLB; CLASS: DISCRETE; HEIGHT: 0.4MM; Tolerance: 5%; ROHS: Yes
footprint R0603
pins: 1, 2

## RES_13
designator R?, comment value 100  (hidden comment: RES)
RES MF 1.0M 1/10W 5% 0402; PCB DECAL: R0603; FPLIST: RC0402_25,RC0402_HD,0402_CC; CAD_APPROVED: Yes; MFG_PN01: ERJ-2GEJ105X; MFG_NAME01: PANASONIC; AGILE_PN: 470-79978; Source_Path: Q:\ORCADCIS\SYMBOLS\FCL_RESISTOR.OLB; CLASS: DISCRETE; ROHS: Yes; Tolerance: 5%; HEIGHT: 0.4MM
footprint R0603
pins: 1, 2

## RES_14
designator R?, comment value 470  (hidden comment: RES)
RES MF 1.0M 1/10W 5% 0402; AGILE_PN: 470-79978; MFG_NAME01: PANASONIC; MFG_PN01: ERJ-2GEJ105X; CAD_APPROVED: Yes; FPLIST: RC0402_25,RC0402_HD,0402_CC; PCB DECAL: R0603; Source_Path: Q:\ORCADCIS\SYMBOLS\FCL_RESISTOR.OLB; CLASS: DISCRETE; HEIGHT: 0.4MM; Tolerance: 5%; ROHS: Yes
footprint R0603
pins: 1, 2

## RES_15
designator R?, comment value 330  (hidden comment: RES)
RES MF 1.0M 1/10W 5% 0402; AGILE_PN: 470-79978; MFG_NAME01: PANASONIC; MFG_PN01: ERJ-2GEJ105X; CAD_APPROVED: Yes; FPLIST: RC0402_25,RC0402_HD,0402_CC; PCB DECAL: R0603; Source_Path: Q:\ORCADCIS\SYMBOLS\FCL_RESISTOR.OLB; CLASS: DISCRETE; HEIGHT: 0.4MM; Tolerance: 5%; ROHS: Yes
footprint R0603
pins: 1, 2

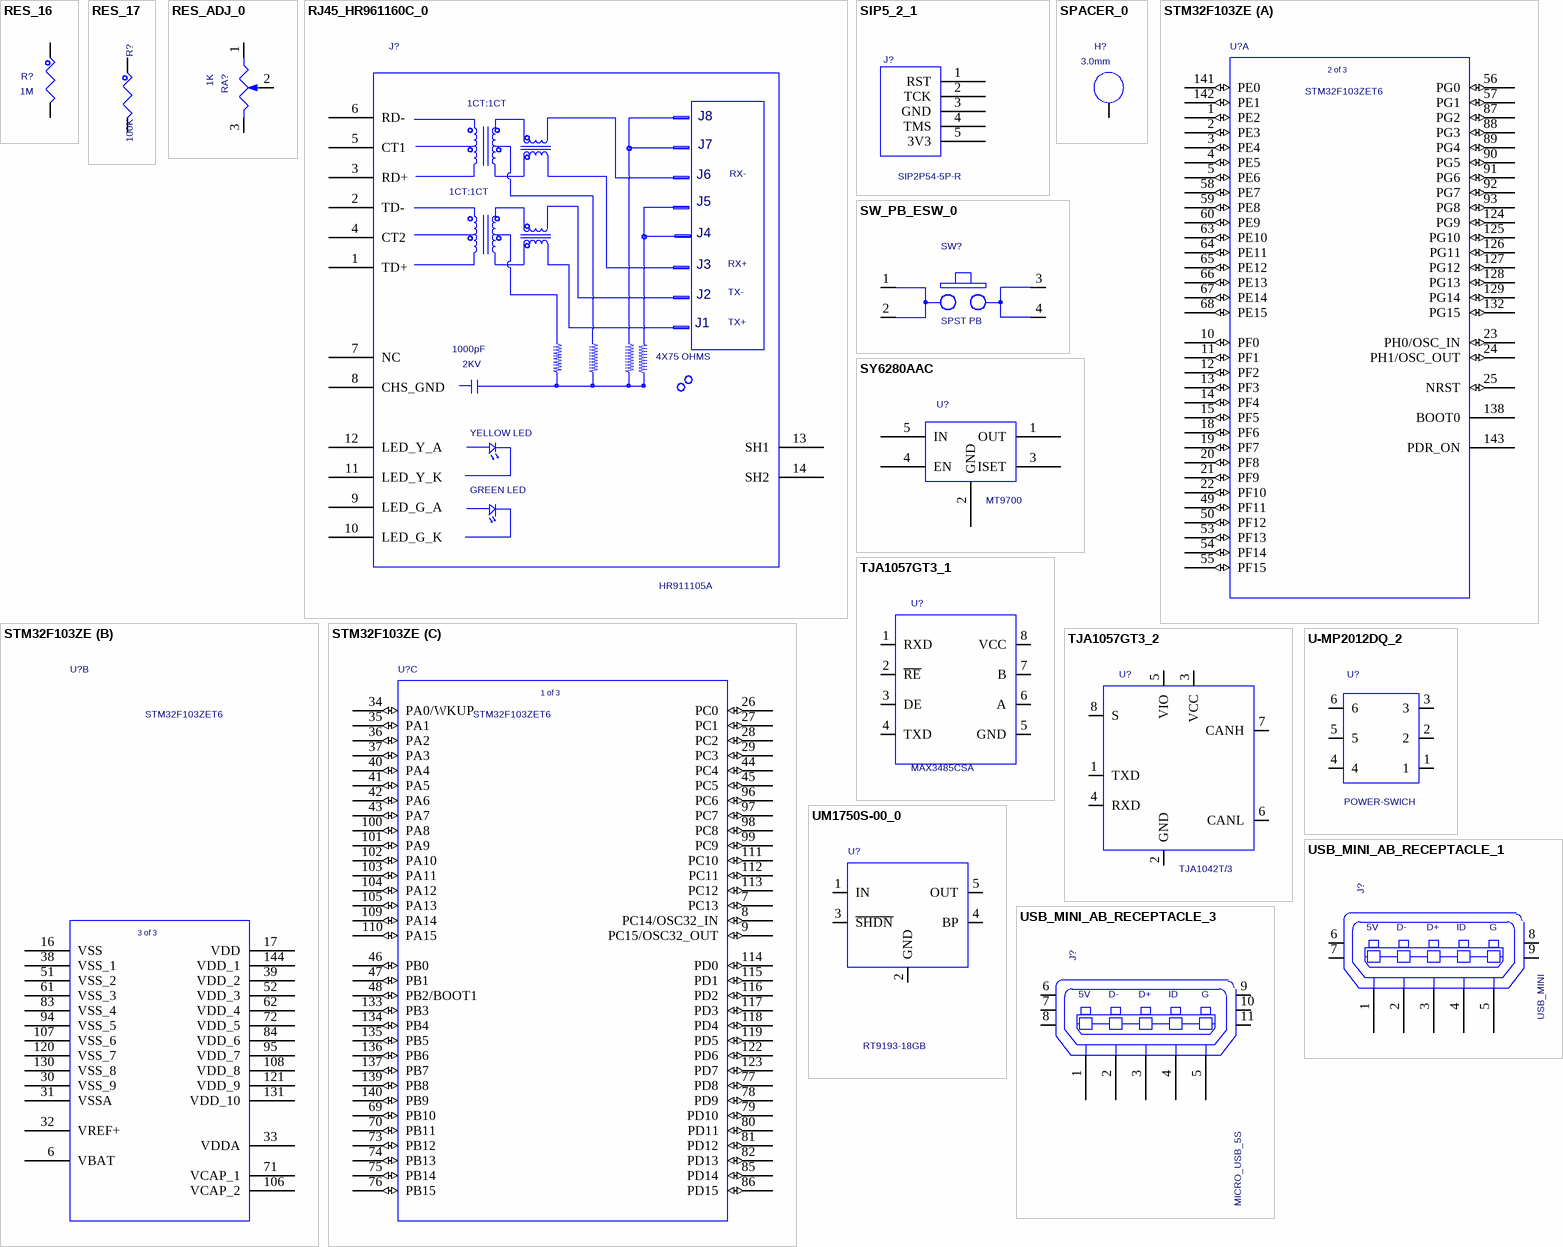
[diagram p3: symbols RES_16 to USB_MINI_AB_RECEPTACLE_3]

## RES_16
designator R?, comment value 1M  (hidden comment: RES)
RES MF 1.0M 1/10W 5% 0402; FPLIST: RC0402_25,RC0402_HD,0402_CC; CAD_APPROVED: Yes; MFG_PN01: ERJ-2GEJ105X; MFG_NAME01: PANASONIC; AGILE_PN: 470-79978; PCB DECAL: R0603; Source_Path: Q:\ORCADCIS\SYMBOLS\FCL_RESISTOR.OLB; CLASS: DISCRETE; ROHS: Yes; Tolerance: 5%; HEIGHT: 0.4MM
footprint R0603
pins: 1, 2

## RES_17
designator R?, comment value 100K  (hidden comment: RES)
RES MF 1.0M 1/10W 5% 0402; PCB DECAL: R0603; AGILE_PN: 470-79978; MFG_NAME01: PANASONIC; MFG_PN01: ERJ-2GEJ105X; CAD_APPROVED: Yes; FPLIST: RC0402_25,RC0402_HD,0402_CC; Source_Path: Q:\ORCADCIS\SYMBOLS\FCL_RESISTOR.OLB; CLASS: DISCRETE; HEIGHT: 0.4MM; Tolerance: 5%; ROHS: Yes
footprint R0603
pins: 1, 2

## RES_ADJ_0
designator RA?  value 1K  (hidden comment: RES_ADJ_0)
Single Turn Top Adjust, 3362P; Part_Number: RE700010-01; Mfr_Part_Number: 3362P-1-203LF; Mfr: Bourns; Partname: DIP可调电阻 3362; Power: 1/2W; Gtech_Number: 50700011202KR0201; Remarks: Checked; Spec: 20K,3362P-1-203LF(Bourns); PCB DECAL: RM065-V1; Source_Path: D:\NXP_RT1050\PCB\IMXRT1052-180207\SCH\RT1050_MB_PRO\IMXRT1052_MB_PRO_0502.DSN
footprint RM065-V1
pins: 1, 2, 3

## RJ45_HR961160C_0
designator J?  value HR911105A  (hidden comment: RJ45_HR961160C_0)
CON 12 RJ45 SHLD RA SM 1.02MM SP 625H --; CAD_APPROVED: Yes; MFG_NAME01: HanRun Electronics Co., Ltd; AGILE_PN: 211-79967; Source_Path: H:\NXP_RT1050\SCH\IMXRT1052_MB.DSN; CLASS: IO; HEIGHT: 15.88 MM; ROHS: Yes; MFG_PN01: HR961160C; PCB DECAL: RJ45
footprint RJ45
pins: 1 TD+, 2 TD-, 3 RD+, 4 CT2, 5 CT1, 6 RD-, 7 NC, 8 CHS_GND, 9 LED_G_A, 10 LED_G_K, 11 LED_Y_K, 12 LED_Y_A, 13 SH1, 14 SH2
text: 1CT:1CT; J8; J7; RX-; J6; J5; J4; RX+; J3; TX-; J2; TX+; J1; 1000pF; 4X75 OHMS; 2KV; YELLOW LED; GREEN LED

## SIP5_2_1
designator J?  value SIP2P54-5P-R  (hidden comment: SIP5_2_1)
PCB DECAL: XH2P54-5P_90; Source_Path: F:\NXP\RT1020\SCH\IMXRT1021.DSN
footprint XH2P54-5P_90
pins: 1 RST, 2 TCK, 3 GND, 4 TMS, 5 3V3

## SPACER_0
designator H?  value 3.0mm  (hidden comment: SPACER_0)
FASTENER, STANDOFF 4.5MMX3.53XM3.0X0.5 ROUND THR .635"L BRASS; AGILE_PN: 280-76498; MFG_NAME01: UNICORP; MFG_PN01: MSS251-R-1-A-16; ASSY_OPT: DNP; CAD_APPROVED: Yes; PCB DECAL: T4R2-6R2_TOPSMT; Source_Path: H:\NXP_RT1050\SCH\IMXRT1052.DSN; CLASS: IC; ROHS: Yes; HEIGHT: 16.13MM
footprint T4R2-6R2_TOPSMT
pins: 1 NC_1

## STM32F103ZE
designator U?  <_Value_>: STM32F103ZET6  (hidden comment: STM32F103ZE)
Manufacturer_Part_Number: stm32f4xxz1; PCB DECAL: LQFP144-050-2020; Source_Path: F:\STM32\F103\F103 PRO\F103.OLB; Value: STM32F103ZET6; Designator: 1; Vendor: STMicroelectronics; OriginalSymbolOrigin: (30000,20000); PackageName: stm32f4xxz1; Copyright: Copyright (C) 2016 Accelerated Designs. All rights reserved
footprint LQFP144-050-2020
part A pins: 1 PE2 (io), 2 PE3 (io), 3 PE4 (io), 4 PE5 (io), 5 PE6 (io), 10 PF0 (io), 11 PF1 (io), 12 PF2 (io), 13 PF3 (io), 14 PF4 (io), 15 PF5 (io), 18 PF6 (io), 19 PF7 (io), 20 PF8 (io), 21 PF9 (io), 22 PF10 (io), 23 PH0/OSC_IN (io), 24 PH1/OSC_OUT (io), 25 NRST (io), 49 PF11 (io), 50 PF12 (io), 53 PF13 (io), 54 PF14 (io), 55 PF15 (io), 56 PG0 (io), 57 PG1 (io), 58 PE7 (io), 59 PE8 (io), 60 PE9 (io), 63 PE10 (io), 64 PE11 (io), 65 PE12 (io), 66 PE13 (io), 67 PE14 (io), 68 PE15 (io), 87 PG2 (io), 88 PG3 (io), 89 PG4 (io), 90 PG5 (io), 91 PG6 (io), 92 PG7 (io), 93 PG8 (io), 124 PG9 (io), 125 PG10 (io), 126 PG11 (io), 127 PG12 (io), 128 PG13 (io), 129 PG14 (io), 132 PG15 (io), 138 BOOT0, 141 PE0 (io), 142 PE1 (io), 143 PDR_ON
part B pins: 6 VBAT (power), 16 VSS (power), 17 VDD (power), 30 VSS_9 (power), 31 VSSA (power), 32 VREF+ (power), 33 VDDA (power), 38 VSS_1 (power), 39 VDD_2 (power), 51 VSS_2 (power), 52 VDD_3 (power), 61 VSS_3 (power), 62 VDD_4 (power), 71 VCAP_1 (power), 72 VDD_5 (power), 83 VSS_4 (power), 84 VDD_6 (power), 94 VSS_5 (power), 95 VDD_7 (power), 106 VCAP_2 (power), 107 VSS_6 (power), 108 VDD_8 (power), 120 VSS_7 (power), 121 VDD_9 (power), 130 VSS_8 (power), 131 VDD_10 (power), 144 VDD_1 (power)
part C pins: 7 PC13 (io), 8 PC14/OSC32_IN (io), 9 PC15/OSC32_OUT (io), 26 PC0 (io), 27 PC1 (io), 28 PC2 (io), 29 PC3 (io), 34 PA0/WKUP (io), 35 PA1 (io), 36 PA2 (io), 37 PA3 (io), 40 PA4 (io), 41 PA5 (io), 42 PA6 (io), 43 PA7 (io), 44 PC4 (io), 45 PC5 (io), 46 PB0 (io), 47 PB1 (io), 48 PB2/BOOT1 (io), 69 PB10 (io), 70 PB11 (io), 73 PB12 (io), 74 PB13 (io), 75 PB14 (io), 76 PB15 (io), 77 PD8 (io), 78 PD9 (io), 79 PD10 (io), 80 PD11 (io), 81 PD12 (io), 82 PD13 (io), 85 PD14 (io), 86 PD15 (io), 96 PC6 (io), 97 PC7 (io), 98 PC8 (io), 99 PC9 (io), 100 PA8 (io), 101 PA9 (io), 102 PA10 (io), 103 PA11 (io), 104 PA12 (io), 105 PA13 (io), 109 PA14 (io), 110 PA15 (io), 111 PC10 (io), 112 PC11 (io), 113 PC12 (io), 114 PD0 (io), 115 PD1 (io), 116 PD2 (io), 117 PD3 (io), 118 PD4 (io), 119 PD5 (io), 122 PD6 (io), 123 PD7 (io), 133 PB3 (io), 134 PB4 (io), 135 PB5 (io), 136 PB6 (io), 137 PB7 (io), 139 PB8 (io), 140 PB9 (io)
part A text: 2 of 3
part B text: 3 of 3
part C text: 1 of 3

## SW_PB_ESW_0
designator SW?  value SPST PB  (hidden comment: SW_PB_ESW_0)
SW SPST MOM NO PB TACT 50mA 50V SMT; CAD_APPROVED: Yes; MFG_PN01: TL3301AF260QG/TR; MFG_NAME01: E SWITCH; AGILE_PN: 510-77562; PCB DECAL: SW4_PB_ESW_SM_P177; Source_Path: H:\NXP_RT1050\SCH\IMXRT1052_MB.DSN; CLASS: IC; HEIGHT: 5MM; ROHS: Yes
footprint SW4_PB_ESW_SM_P177
pins: 1 A1, 2 A2, 3 B1, 4 B2

## SY6280AAC
designator U?  value MT9700  (hidden comment: SY6280AAC)
PCB DECAL: SOT23-5; Source_Path: G:\开发板代码\郭老师资料\IMX6资料\原理图\SABRESDB_DESIGNFILES\DEVELOP\LIBRARY1.OLB
footprint SOT23-5
pins: 1 OUT, 2 GND, 3 ISET, 4 EN, 5 IN

## TJA1057GT3_1
designator U?  value MAX3485CSA  (hidden comment: TJA1057GT3_1)
IC XCVR CAN 4.75-5.25V/2.95-5.25V AEC-Q100 SO8; AGILE_PN: 312-81479; MFG_NAME01: NXP SEMICONDUCTORS; MFG_PN01: TJA1057GT/3; CAD_APPROVED: Yes; PCB DECAL: SOP8; Source_Path: H:\NXP_RT1050\SCH\IMXRT1052_MB.DSN; ROHS: Yes; HEIGHT: 1.75MM; CLASS: IC
footprint SOP8
pins: 1 RXD, 2 ~{RE}, 3 DE, 4 TXD, 5 GND, 6 A, 7 B, 8 VCC

## TJA1057GT3_2
designator U?  value TJA1042T/3  (hidden comment: TJA1057GT3_2)
IC XCVR CAN 4.75-5.25V/2.95-5.25V AEC-Q100 SO8; PCB DECAL: SOP8; AGILE_PN: 312-81479; MFG_NAME01: NXP SEMICONDUCTORS; MFG_PN01: TJA1057GT/3; CAD_APPROVED: Yes; Source_Path: F:\STM32\F407\F407 PRO\SCH\STM32F407_PRO.DSN; ROHS: Yes; HEIGHT: 1.75MM; CLASS: IC
footprint SOP8
pins: 1 TXD, 2 GND (power), 3 VCC (power), 4 RXD, 5 VIO (power), 6 CANL (io), 7 CANH (io), 8 S

## U-MP2012DQ_2
designator U?  value POWER-SWICH  (hidden comment: U-MP2012DQ_2)
PCB DECAL: SWITCH_DDSZ; Source_Path: H:\NXP_RT1050\SCH\IMXRT1052_MB.DSN
footprint SWITCH_DDSZ
pins: 1, 2, 3, 4, 5, 6

## UM1750S-00_0
designator U?  value RT9193-18GB  (hidden comment: UM1750S-00_0)
IC VREG LDO ADJ 1-5V 350mA 2.5-6V SOT23-5; CAD_APPROVED: Yes; MFG_NAME01: Union Semiconductor, Inc; AGILE_PN: 315-80554; Source_Path: H:\NXP_RT1050\SCH\IMXRT1052.DSN; PCB DECAL: SOT23-5; HEIGHT: 1.25MM; ROHS: Yes; MFG_PN01: UM1750S-00; CLASS: IC
footprint SOT23-5
pins: 1 IN (power), 2 GND (power), 3 ~{SHDN}, 4 BP, 5 OUT (power)

## USB_MINI_AB_RECEPTACLE_1
designator J?  value USB_MINI  (hidden comment: USB_MINI_AB_RECEPTACLE_1)
CON 5 USB MICRO_AB RA SKT SMT 0.65MM SP 110H AU; PCB DECAL: MINI_USB_5S; CAD_APPROVED: Yes; Temp_Range: -55&#8451; to 105&#8451;; MFG_PN01: 23970101#LCP-58LF; MFG_NAME01: ANYTRONIC CORPORATION LIMITED; AGILE_PN: 211-80104; Source_Path: D:\NXP_RT1050\RT1050_MB_PRO\SCH\IMXRT1052_MB_PRO_0319.DSN; CLASS: IO; HEIGHT: 2.8MM; ROHS: Yes
footprint MINI_USB_5S
pins: 1 P1, 2 P2, 3 P3, 4 P4, 5 P5, 6 SHLD1, 7 SHLD3, 8 SHLD2, 9 SHLD4
text: 5V; D-; D+; ID; G

## USB_MINI_AB_RECEPTACLE_3
designator J?  value MICRO_USB_5S  (hidden comment: USB_MINI_AB_RECEPTACLE_3)
CON 5 USB MICRO_AB RA SKT SMT 0.65MM SP 110H AU; CAD_APPROVED: Yes; Temp_Range: -55&#8451; to 105&#8451;; MFG_PN01: 23970101#LCP-58LF; MFG_NAME01: ANYTRONIC CORPORATION LIMITED; AGILE_PN: 211-80104; Source_Path: D:\NXP_RT1050\RT1050_MB_PRO\SCH\IMXRT1052_MB_PRO_0418.DSN; CLASS: IO; PCB DECAL: MICRO_USB_5S; HEIGHT: 2.8MM; ROHS: Yes
footprint MICRO_USB_5S
pins: 1 P1, 2 P2, 3 P3, 4 P4, 5 P5, 6 SHLD1, 7 SHLD2, 8 SHLD3, 9 SHLD4, 10 SHLD5, 11 SHLD6
text: 5V; D-; D+; ID; G

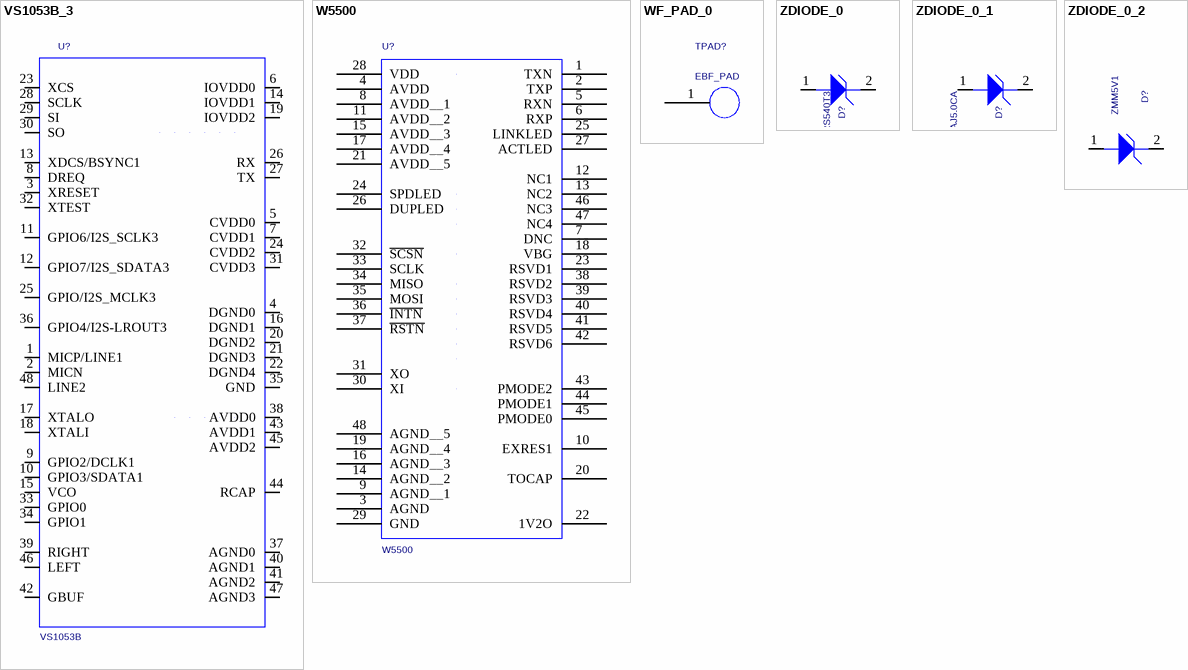
[diagram p4: symbols VS1053B_3 to ZDIODE_0_2]